# Altium schematic symbol library Maks_lib.SchLib: 162 symbols
Pins are listed as number, name and electrical type; pins without a type are passive.

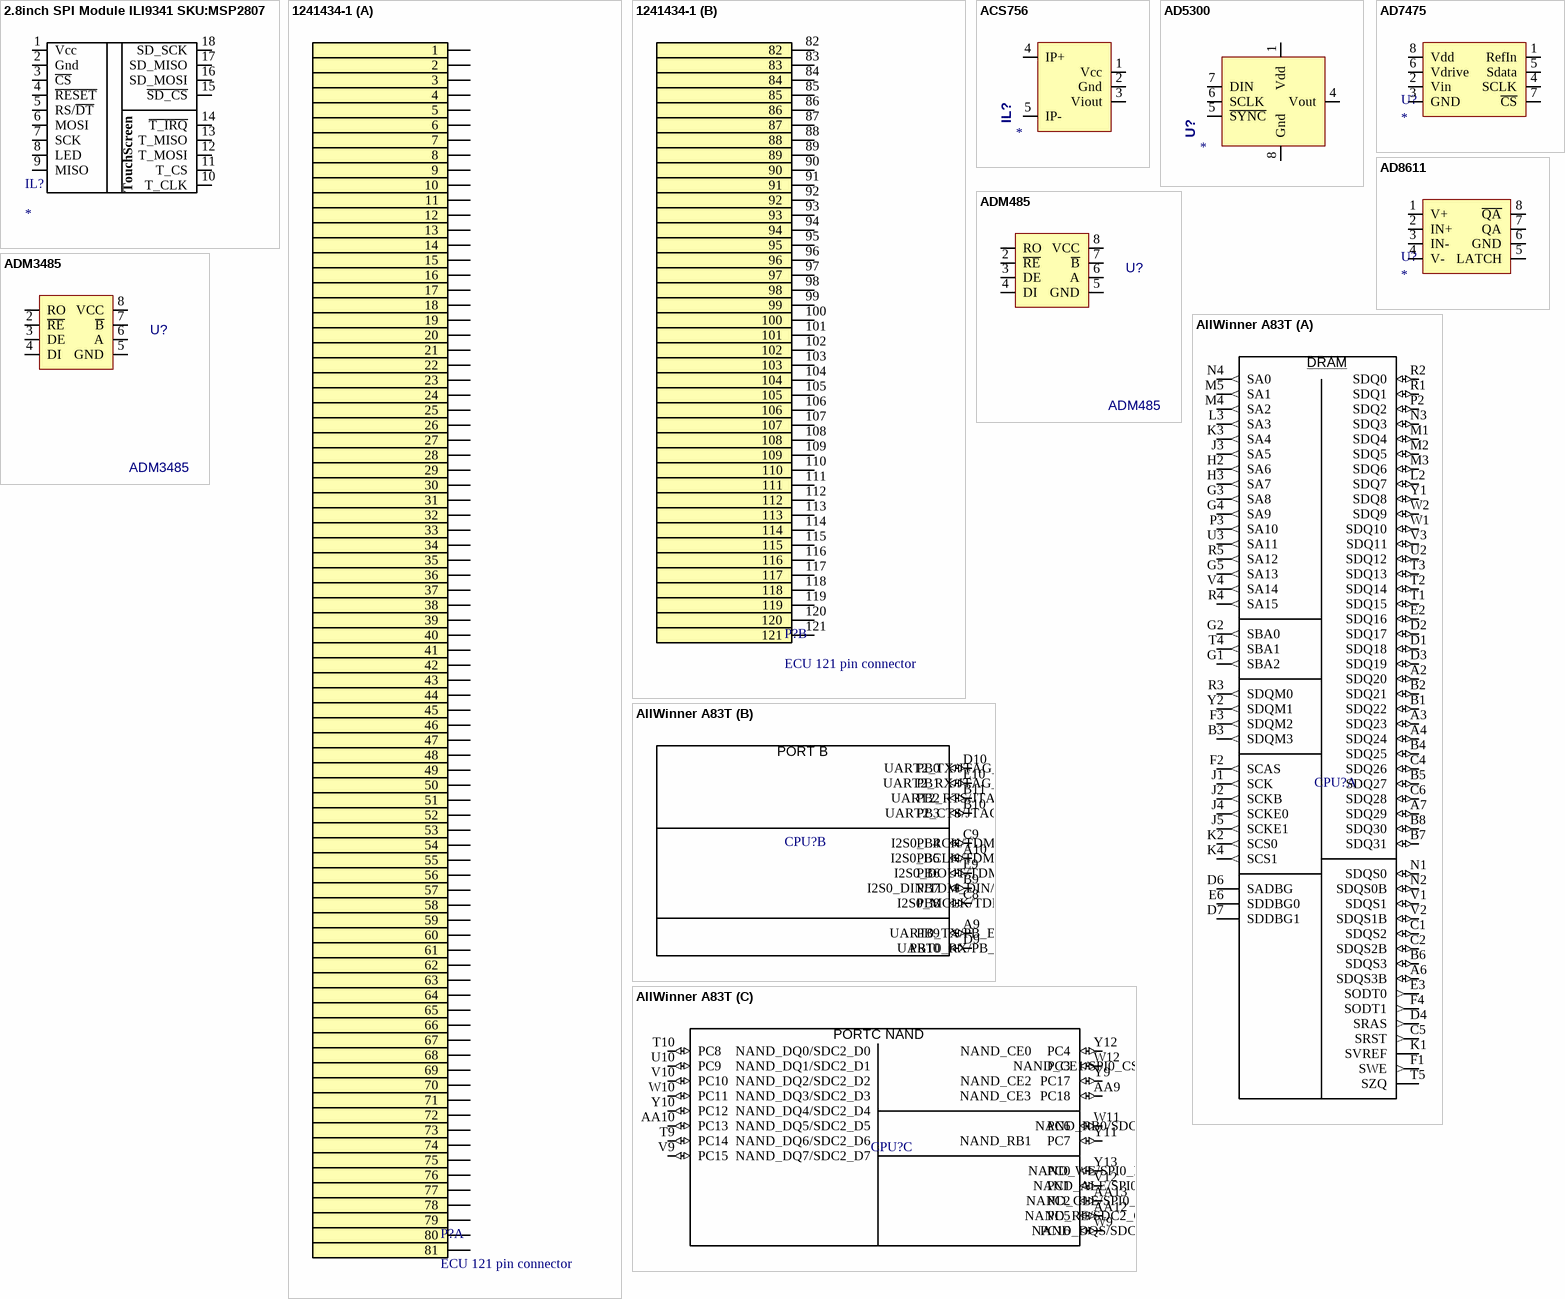
[diagram p0: symbols 2.8inch SPI Module ILI9341 SKU:MSP2807 to AllWinner A83T]

## 2.8inch SPI Module ILI9341 SKU:MSP2807
designator IL?
2.8inch SPI Module ILI9341 SKU:MSP2807
footprint 2.8inch SPI Module (2.8inch SPI Module ILI9341 SKU:MSP2807)
pins: 1 Vcc, 2 Gnd, 3 ~{CS}, 4 ~{RESET}, 5 RS/~{DT}, 6 MOSI, 7 SCK, 8 LED, 9 MISO, 10 T_CLK, 11 T_CS, 12 T_MOSI, 13 T_MISO, 14 ~{T_IRQ}, 15 ~{SD_CS}, 16 SD_MOSI, 17 SD_MISO, 18 SD_SCK
text: TouchScreen

## 1241434-1
designator P?, comment ECU 121 pin connector  (no BOM)
footprint 1241434-1 (ECU Connector)
part A pins: 1, 2, 3, 4, 5, 6, 7, 8, 9, 10, 11, 12, 13, 14, 15, 16, 17, 18, 19, 20, 21, 22, 23, 24, 25, 26, 27, 28, 29, 30, 31, 32, 33, 34, 35, 36, 37, 38, 39, 40, 41, 42, 43, 44, 45, 46, 47, 48, 49, 50, 51, 52, 53, 54, 55, 56, 57, 58, 59, 60, 61, 62, 63, 64, 65, 66, 67, 68, 69, 70, 71, 72, 73, 74, 75, 76, 77, 78, 79, 80, 81
part B pins: 82, 83, 84, 85, 86, 87, 88, 89, 90, 91, 92, 93, 94, 95, 96, 97, 98, 99, 100, 101, 102, 103, 104, 105, 106, 107, 108, 109, 110, 111, 112, 113, 114, 115, 116, 117, 118, 119, 120, 121

## ACS756
designator IL?
footprint ACS756 (30A current sensor)
pins: 1 Vcc, 2 Gnd, 3 Viout, 4 IP+, 5 IP-

## AD5300
designator U?
DAC
footprint MSO-8
pins: 1 Vdd, 4 Vout, 5 ~{SYNC}, 6 SCLK, 7 DIN, 8 Gnd

## AD7475
designator U?
AD7475 1 chanel DAC
footprint SO-8
pins: 1 RefIn, 2 Vin, 3 GND, 4 SCLK, 5 Sdata, 6 Vdrive, 7 ~{CS}, 8 Vdd

## AD8611
designator U?
Ultrafast, 4 ns  Single-Supply Comparators
footprint SO-8
pins: 1 V+, 2 IN+, 3 IN-, 4 V-, 5 LATCH, 6 GND, 7 QA, 8 ~{QA}

## ADM485
designator U?
Value: *
footprint ADM485_ADM485(Primary)
footprint SO-8
pins: 1 RO, 2 ~{RE}, 3 DE, 4 DI, 5 GND, 6 A, 7 ~{B}, 8 VCC

## ADM3485
designator U?
3.3V RS485 Driver; Value: *
footprint SO-8
pins: 1 RO, 2 ~{RE}, 3 DE, 4 DI, 5 GND, 6 A, 7 ~{B}, 8 VCC

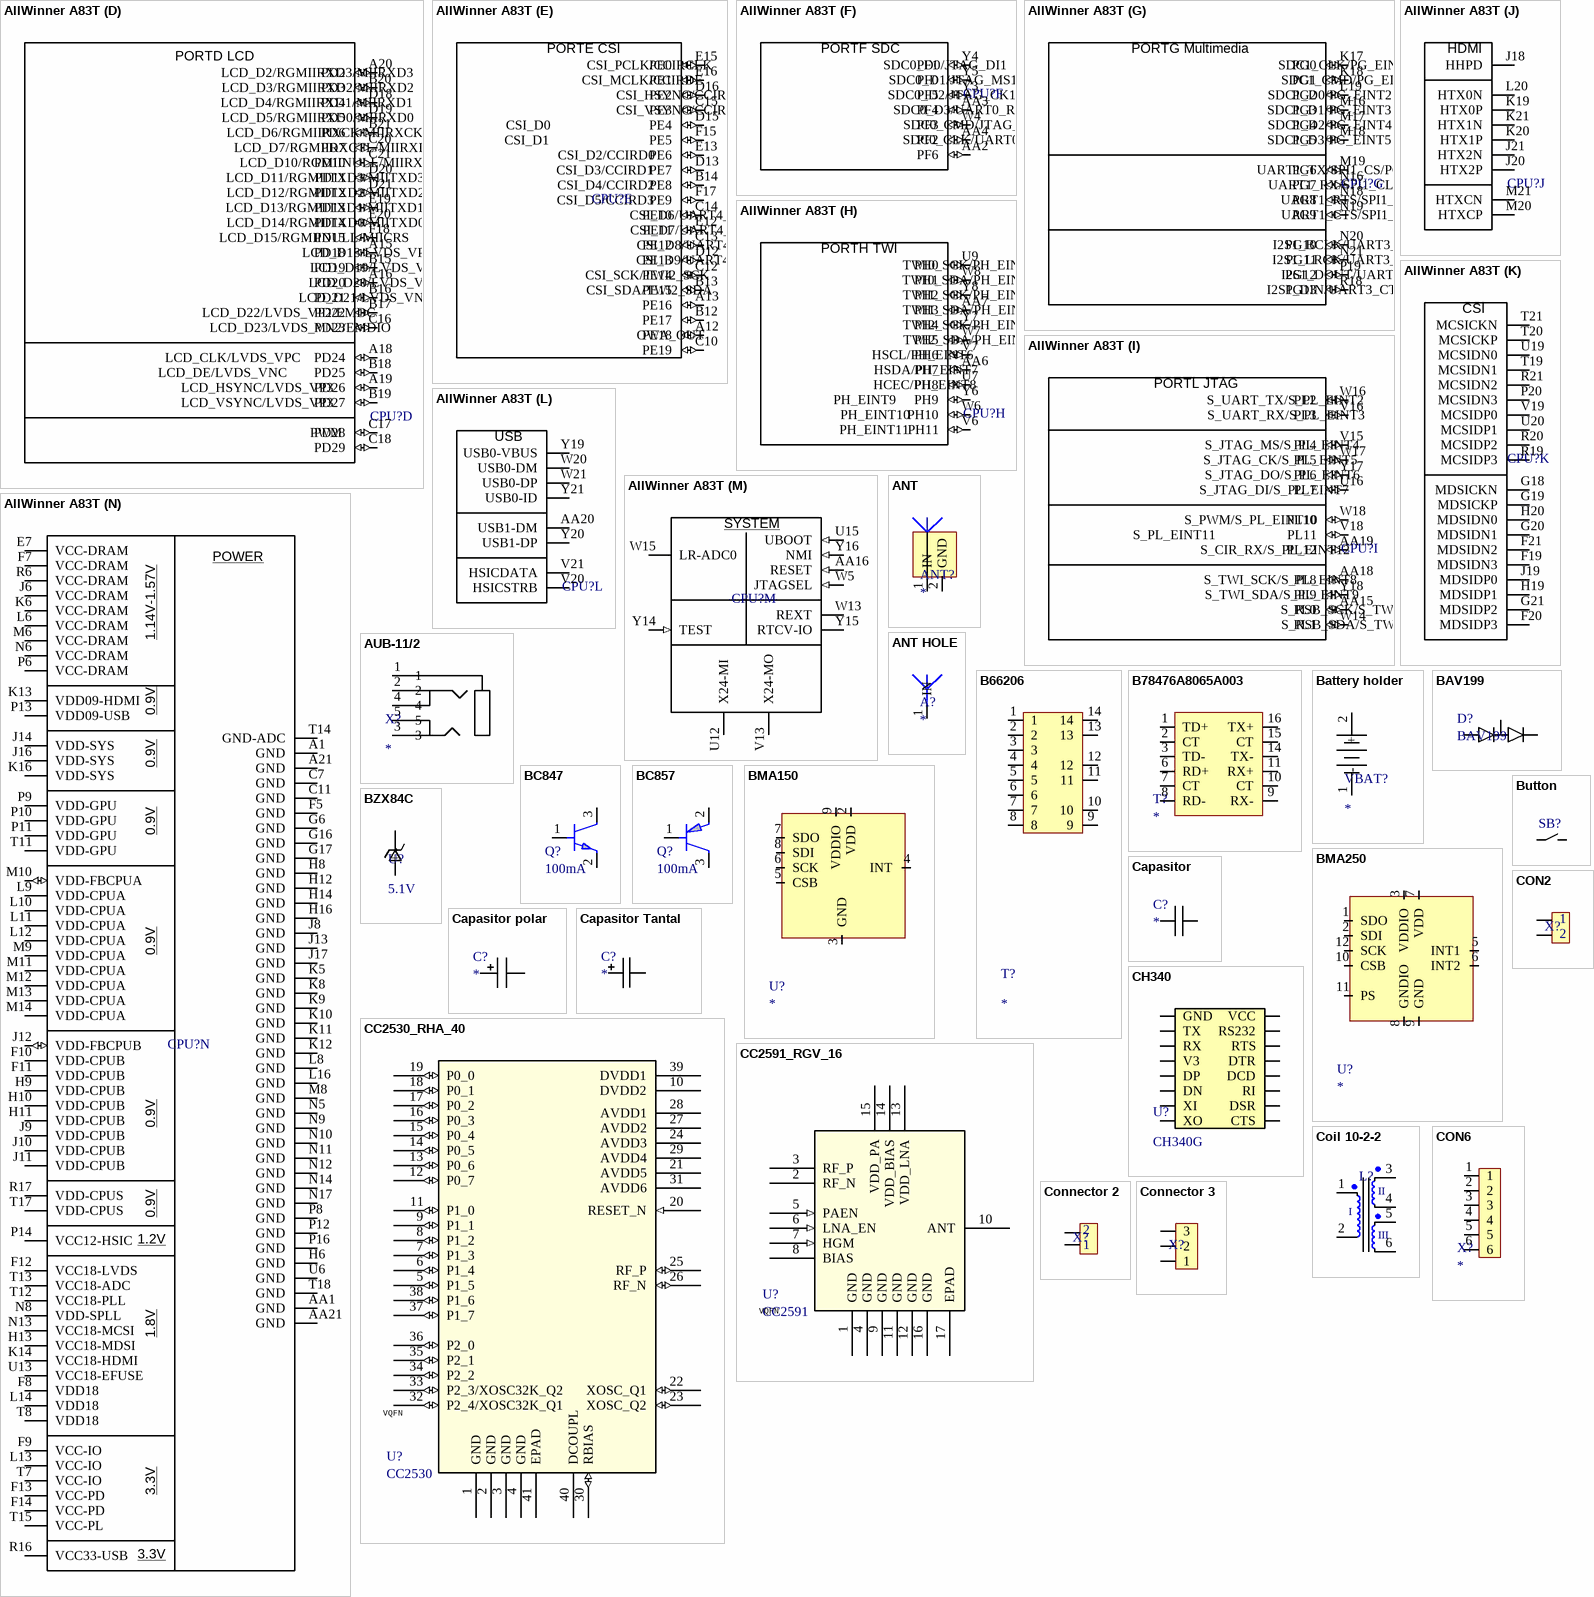
[diagram p1: symbols AllWinner A83T to Connector 3]

## AllWinner A83T
designator CPU?  (value not drawn)
The Allwinner’s A83T is a remarkably lower power, high performance octa-core mobile application processor based on ARM CortexTM-A7 CPU along with SGX544MP1 GPU architecture.
footprint FCBGA345 (FCBGA, 345-Leads, Body 14,00x14,00mmx0,96mm, Pitch 0,65mm)
part A pins: A2 SDQ20 (io), A3 SDQ23 (io), A4 SDQ24 (io), A6 SDQS3B (io), A7 SDQ29 (io), B1 SDQ22 (io), B2 SDQ21 (io), B3 SDQM3 (out), B4 SDQ25 (io), B5 SDQ27 (io), B6 SDQS3 (io), B7 SDQ31 (io), B8 SDQ30 (io), C1 SDQS2 (io), C2 SDQS2B (io), C4 SDQ26 (io), C5 SRST (out), C6 SDQ28 (io), D1 SDQ18 (io), D2 SDQ17 (io), D3 SDQ19 (io), D4 SRAS (out), D6 SADBG, D7 SDDBG1, E2 SDQ16 (io), E3 SODT0 (out), E6 SDDBG0, F1 SWE (out), F2 SCAS (out), F3 SDQM2 (out), F4 SODT1 (out), G1 SBA2 (out), G2 SBA0 (out), G3 SA8 (out), G4 SA9 (out), G5 SA13 (out), H2 SA6 (out), H3 SA7 (out), J1 SCK (out), J2 SCKB (out), J3 SA5 (out), J4 SCKE0 (out), J5 SCKE1 (out), K1 SVREF (power), K2 SCS0 (out), K3 SA4 (out), K4 SCS1 (out), L2 SDQ7 (io), L3 SA3 (out), M1 SDQ4 (io), M2 SDQ5 (io), M3 SDQ6 (io), M4 SA2 (out), M5 SA1 (out), N1 SDQS0 (io), N2 SDQS0B (io), N3 SDQ3 (io), N4 SA0 (out), P2 SDQ2 (io), P3 SA10 (out), R1 SDQ1 (io), R2 SDQ0 (io), R3 SDQM0 (out), R4 SA15 (out), R5 SA12 (out), T1 SDQ15 (io), T2 SDQ14 (io), T3 SDQ13 (io), T4 SBA1 (out), T5 SZQ, U2 SDQ12 (io), U3 SA11 (out), V1 SDQS1 (io), V2 SDQS1B (io), V3 SDQ11 (io), V4 SA14 (out), W1 SDQ10 (io), W2 SDQ9 (io), Y1 SDQ8 (io), Y2 SDQM1 (out)
part B pins: A9 PB9 (io), A10 PB5 (io), B9 PB7 (io), B10 PB3 (io), B11 PB2 (io), C8 PB8 (io), C9 PB4 (io), D9 PB10 (io), D10 PB0 (io), E9 PB6 (io), E10 PB1 (io)
part C pins: AA9 PC18 (io), AA10 PC13 (io), AA12 PC5 (io), AA13 PC2 (io), T9 PC14 (io), T10 PC8 (io), U10 PC9 (io), V9 PC15 (io), V10 PC10 (io), V12 PC1 (io), W9 PC16 (io), W10 PC11 (io), W11 PC6 (io), W12 PC3 (io), Y9 PC17 (io), Y10 PC12 (io), Y11 PC7 (io), Y12 PC4 (io), Y13 PC0 (io)
part D pins: A15 PD18 (io), A16 PD20 (io), A18 PD24 (io), A19 PD26 (io), A20 PD2 (io), B15 PD19 (io), B16 PD21 (io), B17 PD22 (io), B18 PD25 (io), B19 PD27 (io), B20 PD3 (io), B21 PD6 (io), C16 PD23 (io), C17 PD28 (io), C18 PD29 (io), C20 PD7 (io), C21 PD10 (io), D18 PD4 (io), D19 PD5 (io), D20 PD11 (io), D21 PD12 (io), E19 PD13 (io), E20 PD14 (io), F18 PD15 (io)
part E pins: A12 PE18 (io), A13 PE16 (io), B12 PE17 (io), B13 PE15 (io), B14 PE8 (io), C10 PE19 (io), C12 PE14 (io), C13 PE12 (io), C14 PE10 (io), C15 PE3 (io), D12 PE13 (io), D13 PE7 (io), D15 PE4 (io), D16 PE2 (io), E12 PE11 (io), E13 PE6 (io), E15 PE0 (io), E16 PE1 (io), F15 PE5 (io), F17 PE9 (io)
part F pins: AA2 PF6 (io), AA3 PF4 (io), AA4 PF2 (io), W4 PF3 (io), Y3 PF5 (io), Y4 PF1 (io), Y5 PF0 (io)
part G pins: K17 PG0 (io), K18 PG1 (io), L19 PG2 (io), M16 PG3 (io), M17 PG4 (io), M18 PG5 (io), M19 PG6 (io), N16 PG7 (io), N18 PG8 (io), N19 PG9 (io), N20 PG10 (io), N21 PG11 (io), P19 PG12 (io), R18 PG13 (io)
part H pins: AA6 PH7 (io), AA7 PH3 (io), U7 PH8 (io), U9 PH0 (io), V6 PH11 (io), V7 PH6 (io), W6 PH10 (io), W7 PH5 (io), W8 PH1 (io), Y6 PH9 (io), Y7 PH4 (io), Y8 PH2 (io)
part I pins: AA15 PL0 (io), AA18 PL8 (io), AA19 PL12 (io), U16 PL7 (io), V15 PL4 (io), V16 PL3 (io), V18 PL11 (io), W14 PL1 (io), W16 PL2 (io), W17 PL5 (io), W18 PL10 (io), Y17 PL6 (io), Y18 PL9 (io)
part J pins: J18 HHPD, J20 HTX2P, J21 HTX2N, K19 HTX0P, K20 HTX1P, K21 HTX1N, L20 HTX0N, M20 HTXCP, M21 HTXCN
part K pins: F19 MDSIDN3, F20 MDSIDP3, F21 MDSIDN2, G18 MDSICKN, G19 MDSICKP, G20 MDSIDN1, G21 MDSIDP2, H19 MDSIDP1, H20 MDSIDN0, J19 MDSIDP0, P20 MCSIDN3, R19 MCSIDP3, R20 MCSIDP2, R21 MCSIDN2, T19 MCSIDN1, T20 MCSICKP, T21 MCSICKN, U19 MCSIDN0, U20 MCSIDP1, V19 MCSIDP0
part L pins: AA20 USB1-DM, V20 HSICSTRB, V21 HSICDATA, W20 USB0-DM, W21 USB0-DP, Y19 USB0-VBUS, Y20 USB1-DP, Y21 USB0-ID
part M pins: AA16 RESET (in), U12 X24-MI, U15 UBOOT (in), V13 X24-MO, W5 JTAGSEL (in), W13 REXT, W15 LR-ADC0, Y14 TEST (in), Y15 RTCV-IO (power), Y16 NMI (in)
part N pins: A1 GND, A21 GND, AA1 GND, AA21 GND, C7 GND, C11 GND, E7 VCC-DRAM (power), F5 GND, F7 VCC-DRAM (power), F8 VDD18 (power), F9 VCC-IO (power), F10 VDD-CPUB (power), F11 VDD-CPUB (power), F12 VCC18-LVDS (power), F13 VCC-PD (power), F14 VCC-PD (power), G6 GND, G16 GND, G17 GND, H6 GND, H8 GND, H9 VDD-CPUB (power), H10 VDD-CPUB (power), H11 VDD-CPUB (power), H12 GND, H13 VCC18-MDSI (power), H14 GND, H16 GND, J6 VCC-DRAM (power), J8 GND, J9 VDD-CPUB (power), J10 VDD-CPUB (power), J11 VDD-CPUB (power), J12 VDD-FBCPUB (io), J13 GND, J14 VDD-SYS (power), J16 VDD-SYS (power), J17 GND, K5 GND, K6 VCC-DRAM (power), K8 GND, K9 GND, K10 GND, K11 GND, K12 GND, K13 VDD09-HDMI (power), K14 VCC18-HDMI (power), K16 VDD-SYS (power), L6 VCC-DRAM (power), L8 GND, L9 VDD-CPUA (power), L10 VDD-CPUA (power), L11 VDD-CPUA (power), L12 VDD-CPUA (power), L13 VCC-IO (power), L14 VDD18 (power), L16 GND, M6 VCC-DRAM (power), M8 GND, M9 VDD-CPUA (power), M10 VDD-FBCPUA (io), M11 VDD-CPUA (power), M12 VDD-CPUA (power), M13 VDD-CPUA (power), M14 VDD-CPUA (power), N5 GND, N6 VCC-DRAM (power), N8 VDD-SPLL (power), N9 GND, N10 GND, N11 GND, N12 GND, N13 VCC18-MCSI (power), N14 GND, N17 GND, P6 VCC-DRAM (power), P8 GND, P9 VDD-GPU (power), P10 VDD-GPU (power), P11 VDD-GPU (power), P12 GND, P13 VDD09-USB (power), P14 VCC12-HSIC (power), P16 GND, R6 VCC-DRAM (power), R16 VCC33-USB (power), R17 VDD-CPUS (power), T7 VCC-IO (power), T8 VDD18 (power), T11 VDD-GPU (power), T12 VCC18-PLL (power), T13 VCC18-ADC (power), T14 GND-ADC, T15 VCC-PL (power), T17 VDD-CPUS (power), T18 GND, U6 GND, U13 VCC18-EFUSE (power)
part A text: DRAM
part B text: PORT B; UART2_TX/JTAG_MS0/PB_EINT0; UART2_RX/JTAG_CK0/PB_EINT1; UART2_RTS/JTAG_DO0/PB_EINT2; UART2_CTS/JTAG_DI0/PB_EINT3; I2S0_LRCK/TDM_LRCK/PB_EINT4; I2S0_BCLK/TDM_BCLK/PB_EINT5; I2S0_DOUT/TDM_DOUT/PB_EINT6; I2S0_DIN/TDM_DIN/PB_EINT7; I2S0_MCLK/TDM_MCLK/PB_EINT8; UART0_TX/PB_EINT9; UART0_RX/PB_EINT10
part C text: PORTC NAND; NAND_DQ0/SDC2_D0; NAND_CE0; NAND_DQ1/SDC2_D1; NAND_CE1/SPI0_CS; NAND_DQ2/SDC2_D2; NAND_CE2; NAND_DQ3/SDC2_D3; NAND_CE3; NAND_DQ4/SDC2_D4; NAND_DQ5/SDC2_D5; NAND_RB0/SDC2_CMD; NAND_DQ6/SDC2_D6; NAND_RB1; NAND_DQ7/SDC2_D7; NAND_WE/SPI0_MOSI; NAND_ALE/SPI0_MISO; NAND_CLE/SPI0_CLK; NAND_RE/SDC2_CLK; NAND_DQS/SDC2_RST
part D text: PORTD LCD; LCD_D2/RGMIIRXD3/MIIRXD3; LCD_D3/RGMIIRXD2/MIIRXD2; LCD_D4/RGMIIRXD1/MIIRXD1; LCD_D5/RGMIIRXD0/MIIRXD0; LCD_D6/RGMIIRXCK/MIIRXCK; LCD_D7/RGMIIRXCTL/MIIRXDV; LCD_D10/RGMIINULL/MIIRXERR; LCD_D11/RGMIITXD3/MIITXD3; LCD_D12/RGMIITXD2/MIITXD2; LCD_D13/RGMIITXD1/MIITXD1; LCD_D14/RGMIITXD0/MIITXD0; LCD_D15/RGMIINULL/MIICRS; LCD_D18/LVDS_VP0/RGMIITXCK/MIITXCK; LCD_D19/LVDS_VN0/RGMIITXCTL/MIITXEN; LCD_D20/LVDS_VP1/RGMIINULL/MIITXERR; LCD_D21/LVDS_VN1/RGMIICLKIN/MIICOL; LCD_D22/LVDS_VP2/EMDC; LCD_D23/LVDS_VN2/EMDIO; LCD_CLK/LVDS_VPC; LCD_DE/LVDS_VNC; LCD_HSYNC/LVDS_VP3; LCD_VSYNC/LVDS_VP3; PWM
part E text: PORTE CSI; CSI_PCLK/CCIRCLK; CSI_MCLK/CCIRDE; CSI_HSYNC/CCIRHSYNC; CSI_VSYNC/CCIRVSYNC; CSI_D0; CSI_D1; CSI_D2/CCIRD0; CSI_D3/CCIRD1; CSI_D4/CCIRD2; CSI_D5/CCIRD3; CSI_D6/UART4_TX/CCIRD4; CSI_D7/UART4_RX/CCIRD5; CSI_D8/UART4_RTS/CCIRD6; CSI_D9/UART4_CTS/CCIRD7; CSI_SCK/TWI2_SCK; CSI_SDA/TWI2_SDA; OWA_OUT
part F text: PORTF SDC; SDC0_D0/JTAG_DI1; SDC0_D1/JTAG_MS1; SDC0_D2/JTAG_CK1; SDC0_D3/UART0_RX; SDC0_CMD/JTAG_DO1; SDC0_CLK/UART0_TX
part G text: PORTG Multimedia; SDC1_CLK/PG_EINT0; SDC1_CMD/PG_EINT1; SDC1_D0/PG_EINT2; SDC1_D1/PG_EINT3; SDC1_D2/PG_EINT4; SDC1_D3/PG_EINT5; UART1_TX/SPI1_CS/PG_EINT6; UART1_RX/SPI1_CLK/PG_EINT7; UART1_RTS/SPI1_MOSI/PG_EINT8; UART1_CTS/SPI1_MISO/PG_EINT9; I2S1_BCLK/UART3_TX/PG_EINT10; I2S1_LRCK/UART3_RX/PG_EINT11; I2S1_DOUT/UART3_RTS/PG_EINT12; I2S1_DIN/UART3_CTS/PG_EINT13
part H text: PORTH TWI; TWI0_SCK/PH_EINT0; TWI0_SDA/PH_EINT1; TWI1_SCK/PH_EINT2; TWI1_SDA/PH_EINT3; TWI2_SCK/PH_EINT4; TWI2_SDA/PH_EINT5; HSCL/PH_EINT6; HSDA/PH_EINT7; HCEC/PH_EINT8; PH_EINT9; PH_EINT10; PH_EINT11
part I text: PORTL JTAG; S_UART_TX/S_PL_EINT2; S_UART_RX/S_PL_EINT3; S_JTAG_MS/S_PL_EINT4; S_JTAG_CK/S_PL_EINT5; S_JTAG_DO/S_PL_EINT6; S_JTAG_DI/S_PL_EINT7; S_PWM/S_PL_EINT10; S_PL_EINT11; S_CIR_RX/S_PL_EINT12; S_TWI_SCK/S_PL_EINT8; S_TWI_SDA/S_PL_EINT9; S_RSB_SCK/S_TWI_SCK/S_PL_EINT0; S_RSB_SDA/S_TWI_SDA/S_PL_EINT1
part J text: HDMI
part K text: CSI
part L text: USB
part M text: SYSTEM
part N text: POWER; 1.14V-1.57V; 0.9V; 1.2V; 1.8V; 3.3V

## ANT
designator ANT?
footprint ANT_866_2.4 (866MHz &2.4GHz Monopole PCB Antenna)
footprint UFL (U.FL Series Connector)
footprint HYR-1405
footprint AMMAP004\003 (Ceramic Antenna)
footprint AMMAP004\003 - layers (Ceramic Antenna)
pins: 1 IN, 2 GND

## ANT HOLE
designator A?
footprint ANT HOLE (HOLE FOR ANT WIRE)
pins: 1 IN

## AUB-11/2
designator X?
3.5 jack connector
footprint AUB-11/2 (3.5 jack connector)
pins: 1, 2, 3, 4, 5

## B66206
designator T?
Coil
footprint B66206C1014T001 (Coil former (with right-angle pins))
pins: 1, 2, 3, 4, 5, 6, 7, 8, 9, 10, 11, 12, 13, 14

## B78476A8065A003
designator T?
footprint SOIC127P600X175_HS-17M (SOIC, 16-Leads, Body 9,90x3,90mm, Pitch 1,27mm, Thermal Pad 9,00.2x1,80.2mm, IPC Low Density)
pins: 1 TD+, 2 CT, 3 TD-, 6 RD+, 7 CT, 8 RD-, 9 RX-, 10 CT, 11 RX+, 14 TX-, 15 CT, 16 TX+

## Battery holder
designator VBAT?
Battery Holders, Battery Compatibility CR2032, Board-to-Board, 2 Position, Horizontal PCB Mount Orientation
footprint 796136-1 (BATTERY CONNECTOR, SURFACE MOUNT,)
pins: 1 -, 2 +

## BAV199
designator D?
footprint SOT23 (SOT23, 3-Leads, Body 2,90x2,30mm, Pitch 0,95mm, IPC Medium Density)
pins: 1, 2, 3

## BC847
designator Q?, comment 100mA
NPN
footprint SOT23 (SOT23, 3-Leads, Body 2,90x2,30mm, Pitch 0,95mm, IPC Medium Density)
pins: 1 B, 2 E, 3 C

## BC857
designator Q?, comment 100mA
PNP
footprint SOT23 (SOT23, 3-Leads, Body 2,90x2,30mm, Pitch 0,95mm, IPC Medium Density)
pins: 1 B, 2 E, 3 C

## BMA150
designator U?
footprint LGA_BMA150
pins: 2 VDD, 3 GND, 4 INT, 5 CSB, 6 SCK, 7 SDO, 8 SDI, 9 VDDIO

## BMA250
designator U?
footprint LGA
pins: 1 SDO, 2 SDI, 3 VDDIO, 5 INT1, 6 INT2, 7 VDD, 8 GNDIO, 9 GND, 10 CSB, 11 PS, 12 SCK

## Button
designator SB?  (value not drawn)
footprint Button001
footprint SW_1437566-3 (1437566-3); pin to pad 0>1 1>2
pins: 0, 1

## BZX84C
designator U?, comment 5.1V
Zener; value: 5.1V
footprint SOT23 (SOT23, 3-Leads, Body 2,90x2,30mm, Pitch 0,95mm, IPC Medium Density); pin to pad +>3 ->1
pins: +, -

## Capasitor
designator C?
Value: *
footprint SMD 1206
footprint SMD 0805
footprint SMD 0603
footprint SMD 0402
footprint B32922C3334M7
footprint DEBE33F472Z
footprint debb33d222k (HV Ceramic cap)
pins: 1, 2

## Capasitor polar
designator C?
Value: *
footprint CAP AL 470/25
footprint CAP AL 470/10
footprint CAP AL 220/25 (220uF 25V T64); pin to pad 0>1 1>0
footprint CAP AL 1/50 (1uF 50V VS); pin to pad 0>1 1>0
footprint CAP_470; pin to pad 0>2
footprint B43851
footprint CAP 12.5x25 (Cap radial)
footprint CAP 8x11.5 (Cap radial)
footprint CAP 5x11 (Cap radial)
footprint CAP 10x20 (Cap radial)
pins: 0, 1

## Capasitor Tantal
designator C?
Value: *
footprint CAP D (tantal); pin to pad 0>2
footprint TAJ A-CASE (AVX A-CASE 1206); pin to pad 0>2
footprint TAJ B-CASE (AVX B-CASE 1210); pin to pad 0>2
pins: 0, 1

## CC2530_RHA_40
designator U?, comment CC2530  INDUSTRY_STD_PKG_TYPE: VQFN
A True System-on-Chip Solution for 2.4-GHz IEEE 802.15.4 and ZigBee Applications; Manufacturer: Texas Instruments; FAMILY_NAME: ZigBee RF4CE; PIN_COUNT: 40; PACKAGE_DESIGNATOR: RHA; Datasheet_URL: http://www.ti.com/lit/gpn/CC2530; GENERIC_PART_NUMBER: CC2530; Value: Value; Type: Type; RefDes: RefDes
footprint RHA40_4P5X4P5
pins: 1 GND (power), 2 GND (power), 3 GND (power), 4 GND (power), 5 P1_5 (io), 6 P1_4 (io), 7 P1_3 (io), 8 P1_2 (io), 9 P1_1 (io), 10 DVDD2 (power), 11 P1_0 (io), 12 P0_7 (io), 13 P0_6 (io), 14 P0_5 (io), 15 P0_4 (io), 16 P0_3 (io), 17 P0_2 (io), 18 P0_1 (io), 19 P0_0 (io), 20 RESET_N (in), 21 AVDD5 (power), 22 XOSC_Q1 (io), 23 XOSC_Q2 (io), 24 AVDD3 (power), 25 RF_P (io), 26 RF_N (io), 27 AVDD2 (power), 28 AVDD1 (power), 29 AVDD4 (power), 30 RBIAS (io), 31 AVDD6 (power), 32 P2_4/XOSC32K_Q1 (io), 33 P2_3/XOSC32K_Q2 (io), 34 P2_2 (io), 35 P2_1 (io), 36 P2_0 (io), 37 P1_7 (io), 38 P1_6 (io), 39 DVDD1 (power), 40 DCOUPL (power), 41 EPAD (power)

## CC2591_RGV_16
designator U?, comment CC2591  INDUSTRY_STD_PKG_TYPE: VQFN
2.4-GHz Range Extender; Manufacturer: Texas Instruments; FAMILY_NAME: 2.4 GHZ; PIN_COUNT: 16; PACKAGE_DESIGNATOR: RGV; Datasheet_URL: http://www.ti.com/lit/gpn/CC2591; GENERIC_PART_NUMBER: CC2591; Value: Value; Type: Type; RefDes: RefDes
footprint RGV16_2P16X2P16
pins: 1 GND (power), 2 RF_N, 3 RF_P, 4 GND, 5 PAEN (in), 6 LNA_EN (in), 7 HGM (in), 8 BIAS (power), 9 GND (power), 10 ANT, 11 GND (power), 12 GND (power), 13 VDD_LNA (power), 14 VDD_BIAS (power), 15 VDD_PA, 16 GND (power), 17 EPAD (power)

## CH340
designator U?, comment CH340G
Series USB Interface Integrated Circuit
footprint SOIC127P600X175_HS-17M (SOIC, 16-Leads, Body 9,90x3,90mm, Pitch 1,27mm, Thermal Pad 9,00.2x1,80.2mm, IPC Low Density)
pins: 1 GND, 2 TX, 3 RX, 4 V3, 5 DP, 6 DN, 7 XI, 8 XO, 9 CTS, 10 DSR, 11 RI, 12 DCD, 13 DTR, 14 RTS, 15 RS232, 16 VCC

## Coil 10-2-2
designator L?  (value not drawn)
F 140kHz
footprint Coil 10-2-2
pins: 1 P1, 2, 3 (power), 4 (power), 5 (power), 6 (power)
text: II; I; III

## CON2
designator X?  (value not drawn)
footprint CON2
pins: 1, 2

## CON6
designator X?
footprint CON6 slim
pins: 1, 2, 3, 4, 5, 6

## Connector 2
designator X?  (value not drawn)
footprint CONN 3.5MM 2
footprint Conn 5mm 2
footprint CON2 slim; pin to pad 0>1 1>2
pins: 0 1, 1 2

## Connector 3
designator X?  (value not drawn)
footprint CONN 3.5MM 3; pin to pad 1>0 2>1 3>2
footprint Conn 5mm 3; pin to pad 1>0 2>1 3>2
footprint CON3
footprint CON3 slim
footprint 640456-3 (PCB Mount Header, Vertical, Wire-to-Board, 3 Position, 2.54mm)
pins: 1, 2, 3

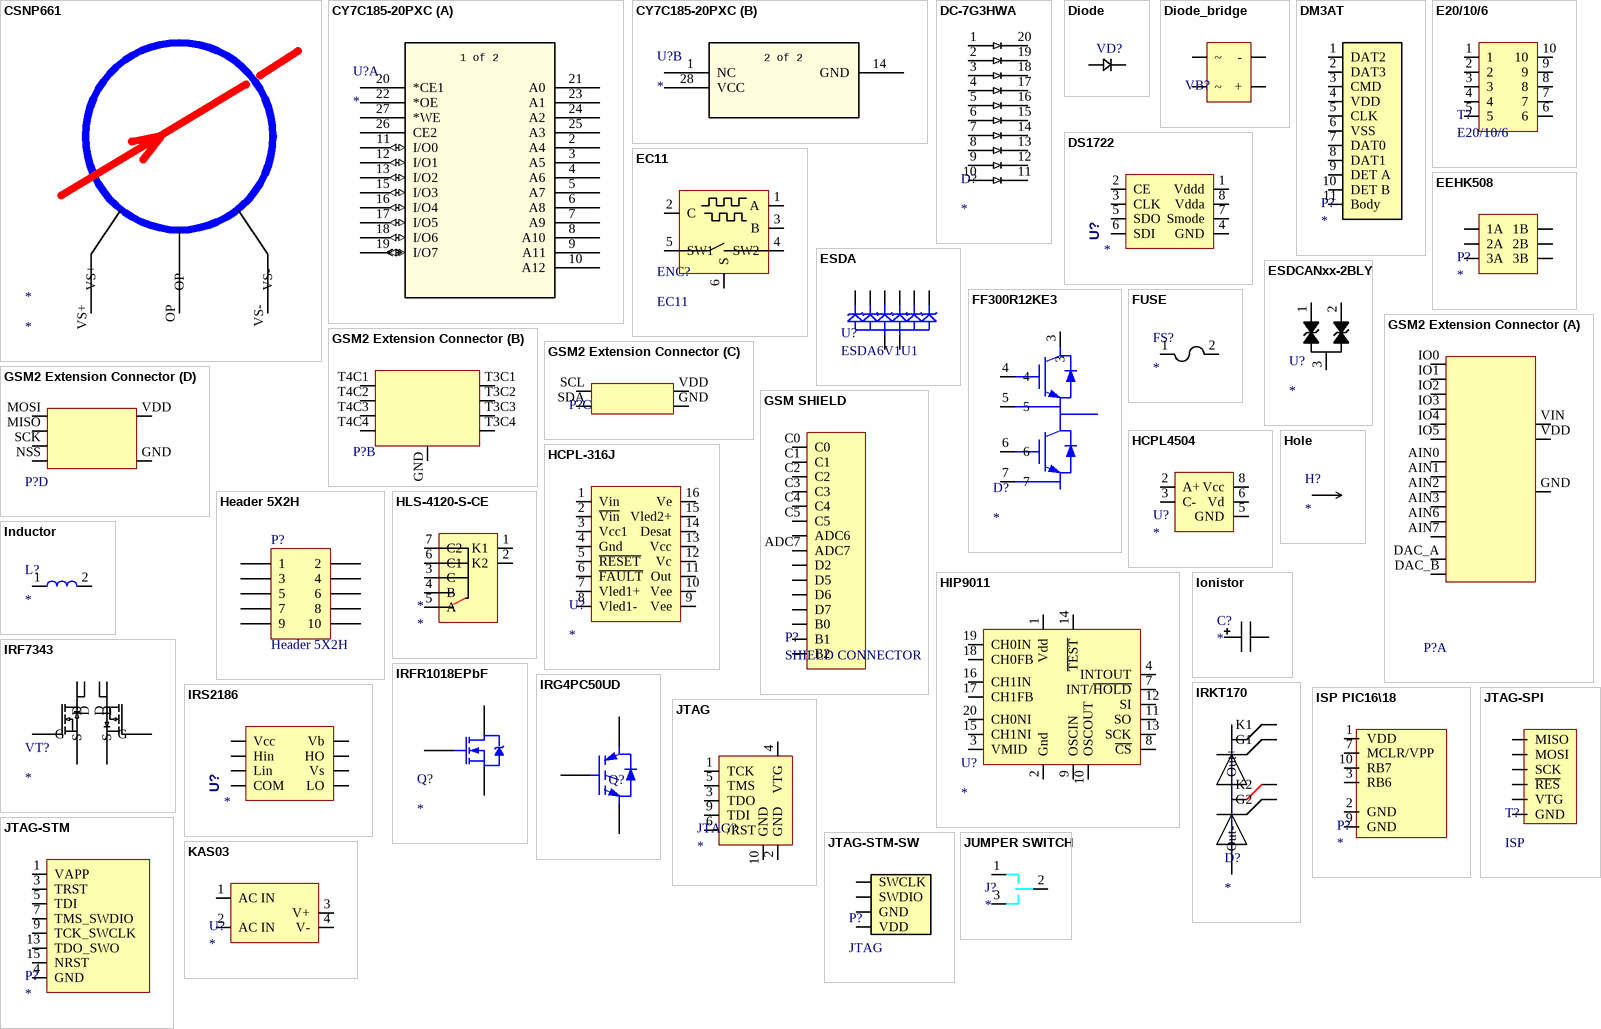
[diagram p2: symbols CSNP661 to KAS03]

## CSNP661
designator *
footprint CSNP661 (Current Sensor 50A)
pins: OP, VS+, VS-

## CY7C185-20PXC
designator U?
IC SRAM 64KBIT 20NS 28DIP; Manufacturer_Part_Number: CY7C185-20PXC; Built_By: EMA_UL_Team; Vendor: Cypress Semiconductor; RefDes: RefDes; Type: DEV; Value: Value
footprint DIP-28
part A pins: 2 A4, 3 A5, 4 A6, 5 A7, 6 A8, 7 A9, 8 A10, 9 A11, 10 A12, 11 I/O0 (io), 12 I/O1 (io), 13 I/O2 (io), 15 I/O3 (io), 16 I/O4 (io), 17 I/O5 (io), 18 I/O6 (io), 19 I/O7 (io), 20 *CE1, 21 A0, 22 *OE, 23 A1, 24 A2, 25 A3, 26 CE2, 27 *WE
part B pins: 1 NC, 14 GND (power), 28 VCC (power)
part A text: 1 of 2
part B text: 2 of 2

## DC-7G3HWA
designator D?
10 SEGMENT BAR GRAPH ARRAY
footprint DC-7G3HWA (10 SEGMENT BAR GRAPH ARRAY)
pins: 1 A, 2 A, 3 A, 4 A, 5 A, 6 A, 7 A, 8 A, 9 A, 10 A, 11 K, 12 K, 13 K, 14 K, 15 K, 16 K, 17 K, 18 K, 19 K, 20 K

## Diode
designator VD?  (value not drawn)
footprint S3B (3A surface mount diode)
footprint DO-214AC
footprint SM-1; pin to pad 0>A 1>K
footprint SOD123
footprint DO-214AA (DIODE)
footprint DO-214AB (Diode)
footprint SOD323 (JEDEC SOD-323); pin to pad 0>2
pins: 0, 1

## Diode_bridge
designator VB?  (value not drawn)
footprint MB6S (Diode bridge)
footprint D-34A (28MB120); pin to pad 0>1 1>3 3>4
footprint DB1-S
footprint DB1S (SMD Diode brige)
pins: 0 ~, 1 -, 2 +, 3 ~

## DM3AT
designator P?
Socket microSD Card
footprint DM3AT-SF-PEJM5 (microSD Card)
pins: 1 DAT2, 2 DAT3, 3 CMD, 4 VDD, 5 CLK, 6 VSS, 7 DAT0, 8 DAT1, 9 DET A, 10 DET B, 11 Body

## DS1722
designator U?
IC Digital Thermometer
footprint SO-8
pins: 1 Vddd, 2 CE, 3 CLK, 4 GND, 5 SDO, 6 SDI, 7 Smode, 8 Vdda

## E20/10/6
designator T?
footprint B66206B110T001
pins: 1, 2, 3, 4, 5, 6, 7, 8, 9, 10

## EC11
designator ENC?
Incremental Encoder
footprint EC11 (Incremental Encoder)
pins: 1 A, 2 C, 3 B, 4 SW2, 5 SW1, 6 S

## EEHK508
designator P?
footprint EEHK508V-06P (6Pin Connector)
pins: 1A, 1B, 2A, 2B, 3A, 3B

## ESDA
designator U?, comment ESDA6V1U1
TRANSIL ARRAY  FOR ESD PROTECTION
footprint SO-8
pins: 1, 2, 3, 4, 5, 6, 7, 8

## ESDCANxx-2BLY
designator U?
dual-line TVS specifically designed for the protection of automotive CAN bus lines against electrostatic discharge (ESD)
footprint SOT23 (SOT23, 3-Leads, Body 2,90x2,30mm, Pitch 0,95mm, IPC Medium Density)
pins: 1, 2, 3

## FF300R12KE3
designator D?
62mm C-series module with trench/fieldstop IGBT3 and Emitter Controlled HighEfficiency diode
footprint FF300R12KE3 (62mm C-series module with trench/fieldstop IGBT3 and Emitter Controlled HighEfficiency diode)
pins: 3, 4, 5, 6, 7

## FUSE
designator FS?
Value: *
footprint FH-101
footprint ВП1-2; pin to pad 1>0 2>1
footprint MF-USMF010
footprint SMD 1206
pins: 1, 2

## GSM2 Extension Connector
designator P?  (value not drawn)
Connector for GSM2 Extension module
footprint GSM2_CONNECTOR (Connector for GSM2 extension plate)
part A pins: AIN0, AIN1, AIN2, AIN3, AIN6, AIN7, DAC_A, DAC_B, GND, IO0, IO1, IO2, IO3, IO4, IO5, VDD, VIN
part B pins: GND, T3C1, T3C2, T3C3, T3C4, T4C1, T4C2, T4C3, T4C4
part C pins: GND, SCL, SDA, VDD
part D pins: GND, MISO, MOSI, NSS, SCK, VDD

## GSM SHIELD
designator P?, comment SHIELD CONNECTOR
footprint GSM-Connector (Connector for shield)
pins: ADC6, ADC7, B0, B1, B2, C0, C1, C2, C3, C4, C5, D2, D5, D6, D7

## HCPL4504
designator U?
footprint DIP8
pins: 2 A+, 3 C-, 5 GND, 6 Vd, 8 Vcc

## HCPL-316J
designator U?
2.5 Amp Gate Drive Optocoupler with Integrated (VCE) Desaturation Detection and Fault Status Feedback; ComponentLink1Description: New link; ComponentLink1URL: *
footprint SOIC127P1030X265-16N (SOIC, 16-Leads, Body 10,30x7,50mm, Pitch 1,27mm, IPC Medium Density)
pins: 1 Vin, 2 ~{Vin}, 3 Vcc1, 4 Gnd, 5 ~{RESET}, 6 ~{FAULT}, 7 Vled1+, 8 Vled1-, 9 Vee, 10 Vee, 11 Out, 12 Vc, 13 Vcc, 14 Desat, 15 Vled2+, 16 Ve

## Header 5X2H
designator P?
Header, 5-Pin, Dual row, Right Angle; LatestRevisionDate: 17-Jul-2002; LatestRevisionNote: Re-released for DXP Platform.; Publisher: Altium Limited
signal-integrity model Connector
footprint HDR2X5 (Connector; Header; 5x2 Position)
footprint HDR2X5R (Connector; Header; 5x2 Position)
pins: 1, 2, 3, 4, 5, 6, 7, 8, 9, 10

## HIP9011
designator U?
Engine Knock Signal Processor
footprint SOIC20
pins: 1 Vdd, 2 Gnd, 3 VMID, 4 INTOUT, 7 INT/~{HOLD}, 8 ~{CS}, 9 OSCIN, 10 OSCOUT, 11 SO, 12 SI, 13 SCK, 14 ~{TEST}, 15 CH1NI, 16 CH1IN, 17 CH1FB, 18 CH0FB, 19 CH0IN, 20 CH0NI

## HLS-4120-S-CE
designator *
footprint HLS-4120
pins: 1 K1, 2 K2, 3 C, 4 B, 5 A, 6 C1, 7 C2

## Hole
designator H?
footprint Hole 2.5
footprint Hole 3
footprint Hole 1.5
footprint Hole 3.6
pins: 0

## Inductor
designator L?
Value: *
footprint SMD 1206
footprint B82477G4 (SMT power inductors)
footprint B82464G4 (SMT power inductors  Size 10.4 u 10.4 u 4.8 (mm))
footprint SDR0604
footprint SMD 0805
footprint SMD 0603
footprint SMD 0402
footprint VLS6045EX (Inductor)
footprint CD54 (SMD Power Inductors CD54 Series)
footprint RLB0914 (RLB Series Radial Inductors)
footprint L_CDRH5D28 (Ferrite drum core construction.)
pins: 1, 2

## Ionistor
designator C?
Value: *
footprint EECS5R5V105; pin to pad 0>1 1>2
pins: 0, 1

## IRF7343
designator VT?
HEXFET® Power MOSFET / Dual N and P Channel MOSFET; ComponentLink1Description: Datasheet; ComponentLink1URL: https://data.electronshik.ru/z/Datasheet/I/irf7343pbf.pdf
footprint SO-8; pin to pad D1>8 D2>5 D11>7 D21>6 G1>2 G2>4 S1>1 S2>3
pins: D1 D, D2 D, D11 D, D21 D, G1 G, G2 G, S1 S, S2 S

## IRFR1018EPbF
designator Q?
HEXFET Power MOSFET; ComponentLink1Description: datasheet; ComponentLink1URL: https://data.electronshik.ru/z/Datasheet/I/IRFR1018EPBF.pdf
footprint DPAK228P991X238-3M (D-PAK, 3-Pads, Body 6,20x6,72mm (max), IPC Low Density)
pins: 1 G, 3 S, 4 D

## IRG4PC50UD
designator Q?
Insulated Gate Bipolar Transistor with Ultrafast Soft Recovery Diode; Note: Pin 2 (collector) is electrically connected to the BASE; Published: 8-Jun-2000; LatestRevisionDate: 17-Jul-2002; LatestRevisionNote: Re-released for DXP Platform.; DatasheetVersion: Apr-1997; PackageVersion: Aug-1997; PackageReference: TO-247AC; Publisher: Altium Limited; PackageDescription: SIP with Mounting Hole; 3 Leads; Body 20 x 15.6 x 5 mm (typ); Pitch 5.45 mm; Code_JEDEC: TO-247-AC; ComponentLink1Description: Manufacturer Link; ComponentLink1URL: http://www.irf.com/; ComponentLink2Description: Datasheet; ComponentLink2URL: http://www.irf.com/product-info/datasheets/data/irg4pc50ud.pdf
footprint TO-247AC (SIP with Mounting Hole; 3 Leads; Body 20 x 15.6 x 5 mm (typ); Pitch 5.45 mm)
simulation model IRG4PC50UD (SUBCKT)
pins: 1 G, 2 C, 3 E

## IRKT170
designator D?
footprint IRKT170
footprint IRKT170 COMM; pin to pad Out+>K1
pins: G1, G2, K1, K2, Out+, Out-

## IRS2186
designator U?
H/L driver
footprint SO-8; pin to pad 1>5 2>1 3>2 4>3 5>4
pins: 1 Vcc, 2 Hin, 3 Lin, 4 COM, 5 LO, 6 Vs, 7 HO, 8 Vb

## ISP PIC16\18
designator P?
footprint HDR2X5 (Connector; Header; 5x2 Position)
pins: 1 VDD, 2 GND, 3 RB6, 7 MCLR/VPP, 9 GND, 10 RB7

## JTAG
designator JTAG?
footprint HDR2X5 (Connector; Header; 5x2 Position)
pins: 1 TCK, 2 GND, 3 TDO, 4 VTG, 5 TMS, 6 /RST, 9 TDI, 10 GND

## JTAG-SPI
designator T?, comment ISP
footprint HDR2X3 (Connector; Header; 3x2 Position)
pins: 1 MISO, 2 VTG, 3 SCK, 4 MOSI, 5 ~{RES}, 6 GND

## JTAG-STM
designator P?
footprint HDR2x10
pins: 1 VAPP, 3 TRST, 4 GND, 5 TDI, 7 TMS_SWDIO, 9 TCK_SWCLK, 13 TDO_SWO, 15 NRST, 17 hidden to 4

## JTAG-STM-SW
designator P?, comment JTAG
footprint HEADER 1x4
pins: 1 VDD, 2 GND, 3 SWDIO, 4 SWCLK

## JUMPER SWITCH
designator J?
footprint JMP3
pins: 1, 2, 3

## KAS03
designator U?
Power Module
footprint KAS0303 (3.3V)
pins: 1 AC IN, 2 AC IN, 3 V+, 4 V-

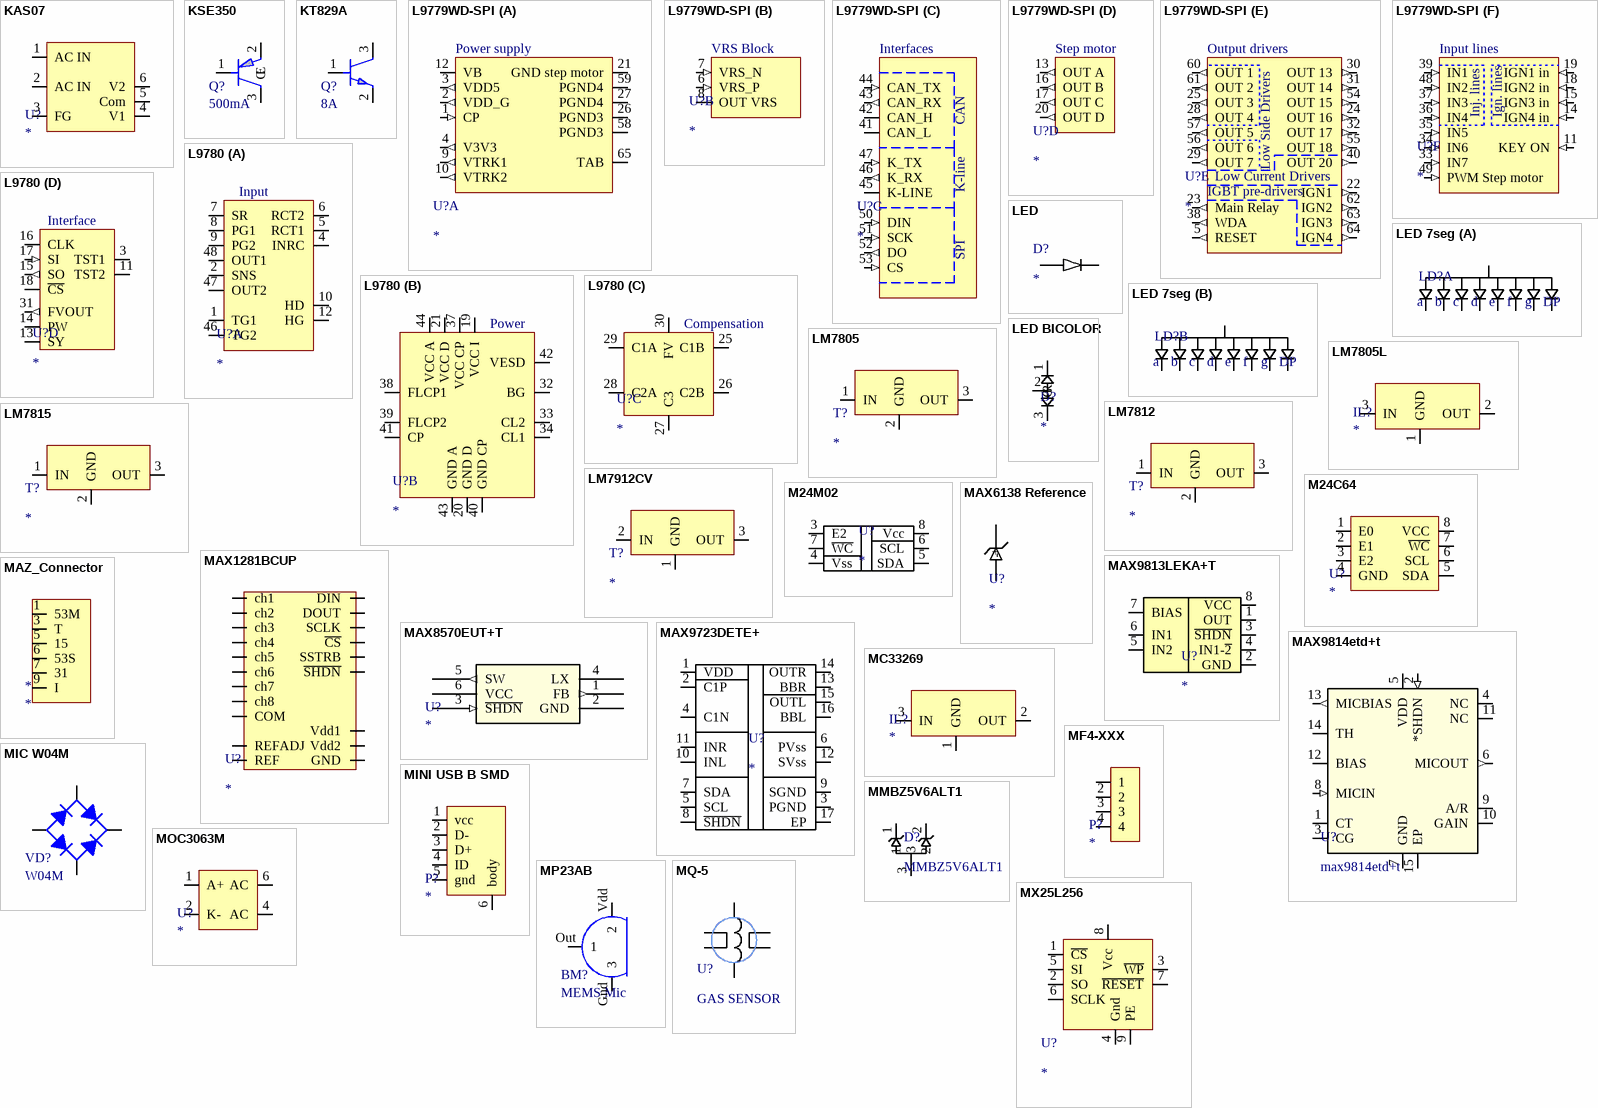
[diagram p3: symbols KAS07 to MX25L256]

## KAS07
designator U?
Power Module
footprint KAM07503D (Dual Band Power Module 5\3.3)
pins: 1 AC IN, 2 AC IN, 3 FG, 4 V1, 5 Com, 6 V2

## KSE350
designator Q?, comment 500mA
PNP
footprint TO-126; pin to pad 1>3 2>1 3>2
pins: 1 B, 2 E, 3 C

## KT829A
designator Q?, comment 8A
NPN
footprint TO-220AB (TO, Thru-Hole, Vertical, Heatsink Mounted; 3 In-Line Leads; Pitch 2.54 mm); pin to pad 2>3 3>2
pins: 1 B, 2 E, 3 C

## L9779WD-SPI
designator U?
Multifunction IC for engine management system
footprint HiQUAD-64
part A pins: 1 CP (in), 2 VDD_G (out), 3 VDD5 (out), 4 V3V3 (out), 9 VTRK1 (out), 10 VTRK2 (out), 12 VB (power), 21 GND step motor, 26 PGND3, 27 PGND4, 58 PGND3, 59 PGND4, 65 TAB
part B pins: 6 VRS_P (in), 7 VRS_N (in), 8 OUT VRS (oc)
part C pins: 41 CAN_L (io), 42 CAN_H (io), 43 CAN_RX (out), 44 CAN_TX (in), 45 K-LINE (io), 46 K_RX (out), 47 K_TX (in), 50 DIN (in), 51 SCK (in), 52 DO (out), 53 CS (in)
part D pins: 13 OUT A (out), 16 OUT B (out), 17 OUT C (out), 20 OUT D (out)
part E pins: 5 RESET (out), 22 IGN1 (out), 23 Main Relay (out), 24 OUT 16 (out), 25 OUT 3 (out), 28 OUT 4 (out), 29 OUT 7 (out), 30 OUT 13 (out), 31 OUT 14 (out), 32 OUT 17 (out), 38 WDA (out), 40 OUT 20 (out), 54 OUT 15 (out), 55 OUT 18 (out), 56 OUT 6 (out), 57 OUT 5 (out), 60 OUT 1 (out), 61 OUT 2 (out), 62 IGN2 (out), 63 IGN3 (out), 64 IGN4 (out)
part F pins: 11 KEY ON (in), 14 IGN4 in (in), 15 IGN3 in (in), 18 IGN2 in (in), 19 IGN1 in (in), 33 IN7 (in), 34 IN6 (in), 35 IN5 (in), 36 IN4 (in), 37 IN3 (in), 39 IN1 (in), 48 IN2 (in), 49 PWM Step motor (in)
part A text: Power supply
part B text: VRS Block
part C text: Interfaces; CAN; K-line; SPI
part D text: Step motor
part E text: Output drivers; Low Side Drivers; Low Current Drivers; IGBT pre-drivers
part F text: Input lines; Inj. lines; Ign. lines

## L9780
designator U?
Wide range air fuel sensor control interface
footprint LQFP-48N (LQFP, 48-Leads, Body 7,00x7,00mm, Pitch 0,50mm, IPC Medium Density)
part A pins: 1 TG1, 2 SNS, 4 INRC, 5 RCT1, 6 RCT2, 7 SR, 8 PG1, 9 PG2, 10 HD, 12 HG, 46 TG2, 47 OUT2, 48 OUT1
part B pins: 19 VCC I, 20 GND D, 21 VCC D, 32 BG, 33 CL2, 34 CL1, 37 VCC CP, 38 FLCP1, 39 FLCP2, 40 GND CP, 41 CP, 42 VESD, 43 GND A, 44 VCC A
part C pins: 25 C1B, 26 C2B, 27 C3, 28 C2A, 29 C1A, 30 FV
part D pins: 3 TST1, 11 TST2, 13 SY, 14 PW, 15 SO (out), 16 CLK, 17 SI (in), 18 ~{CS}, 31 FVOUT (out)
part A text: Input
part B text: Power
part C text: Compensation
part D text: Interface

## LED
designator D?
LED
footprint LED FM-3014
footprint LED 0805; pin to pad +>2 ->1
pins: +, -

## LED 7seg
designator LD?  (value not drawn)
footprint KPDA02-101
part A pins: 1, 2, 4, 5, 16, 17, 19, 20, D1P V
part B pins: 6, 7, 9, 10, 11, 12, 14, 15, D2P V
part A text: a; b; c; d; e; f; g; DP
part B text: a; b; c; d; e; f; g; DP

## LED BICOLOR
designator D?
footprint L-59E (HIGH EFFICIENCY RED / GREEN)
pins: 1 R, 2 A, 3 G

## LM7805
designator T?
5V 1.5A
footprint TO-220AB (TO, Thru-Hole, Vertical, Heatsink Mounted; 3 In-Line Leads; Pitch 2.54 mm)
footprint TO-92
pins: 1 IN, 2 GND, 3 OUT

## LM7805L
designator IL?
Type: LM7805ACD2TG
footprint D2PAK; pin to pad 1>4 2>3 3>1
pins: 1 GND, 2 OUT, 3 IN

## LM7812
designator T?
12V 1.5A
footprint TO-220AB (TO, Thru-Hole, Vertical, Heatsink Mounted; 3 In-Line Leads; Pitch 2.54 mm)
pins: 1 IN, 2 GND, 3 OUT

## LM7815
designator T?
15V 1.5A
footprint TO-220AB (TO, Thru-Hole, Vertical, Heatsink Mounted; 3 In-Line Leads; Pitch 2.54 mm)
pins: 1 IN, 2 GND, 3 OUT

## LM7912CV
designator T?
-12V 1.5A
footprint TO-220AB (TO, Thru-Hole, Vertical, Heatsink Mounted; 3 In-Line Leads; Pitch 2.54 mm)
pins: 1 GND, 2 IN, 3 OUT

## M24C64
designator U?
footprint SO-8
pins: 1 E0, 2 E1, 3 E2, 4 GND, 5 SDA, 6 SCL, 7 ~{WC}, 8 VCC

## M24M02
designator U?
2-Mbit serial I²C bus EEPROM; ComponentLink1Description: Datasheet; ComponentLink1URL: https://www.st.com/resource/en/datasheet/m24m02-dr.pdf
footprint SO-8
pins: 3 E2, 4 Vss, 5 SDA, 6 SCL, 7 ~{WC}, 8 Vcc

## MAX1281BCUP
designator U?
ADC 8ch 2.5V ref
footprint TSOP20 (TSOP, 20-Leads, Body 6,50x4,40mm, Pitch 0,65mm, Thermal Pad 4,34.2x3,15.2mm, IPC Medium Density)
pins: 1 ch1, 2 ch2, 3 ch3, 4 ch4, 5 ch5, 6 ch6, 7 ch7, 8 ch8, 9 COM, 10 ~{SHDN}, 11 REF, 12 REFADJ, 13 GND, 14 DOUT, 15 SSTRB, 16 DIN, 17 ~{CS}, 18 SCLK, 19 Vdd2, 20 Vdd1

## MAX6138 Reference
designator U?
2.5V
footprint SC70 (SC70 3-Leads, Body 2,00x2,10mm, Pitch 0,65mm, IPC Medium Density); pin to pad +>1 ->2
pins: +, -

## MAX8570EUT+T
designator U?
High-Efficiency LCD Boost  with True Shutdown; Manufacturer_Part_Number: max8570eut+t; Vendor: MAXIM; Value: Value; Type: Type; RefDes: RefDes
footprint SOT23-6
pins: 1 FB (out), 2 GND (power), 3 ~{SHDN} (in), 4 LX, 5 SW (out), 6 VCC (power)

## MAX9723DETE+
designator U?
Stereo DirectDrive Headphone Amplifier with BassMax, Volume Control, and I2C
footprint TQFN16 (16-Terminal Ceramic Surface-Mount Case)
pins: 1 VDD, 2 C1P, 3 PGND, 4 C1N, 5 SCL, 6 PVss, 7 SDA, 8 ~{SHDN}, 9 SGND, 10 INL, 11 INR, 12 SVss, 13 BBR, 14 OUTR, 15 OUTL, 16 BBL, 17 EP

## MAX9813LEKA+T
designator U?
Dual-Input, Fixed-Gain / Microphone Amplifiers with Integrated Bias
footprint SOT23-8
pins: 1 OUT, 2 GND, 3 ~{SHDN}, 4 IN1-~{2}, 5 IN2, 6 IN1, 7 BIAS, 8 VCC

## MAX9814etd+t
designator U?, comment max9814etd+t
Microphone Amplifier with AGC and Low-Noise Microphone Bias; SourceLibrary: Maxim_2009-12-17_3b; Built_By: EMA_UL_Team; Vendor: Maxim Integrated Products; Copyright: Copyright (C) 2018 Accelerated Designs. All rights reserved; Manufacturer_Part_Number: max9814etd+t; Revision: 2; RefDes: RefDes; Type: DEV
footprint 14-Pin TDFN (14-Pin TDFN (3mm ? 3mm) Package)
pins: 1 CT, 2 *SHDN (in), 3 CG, 4 NC, 5 VDD (power), 6 MICOUT (out), 7 GND (power), 8 MICIN (in), 9 A/R, 10 GAIN, 11 NC, 12 BIAS, 13 MICBIAS (out), 14 TH, 15 EP

## MAZ_Connector
designator *
footprint MAZ_CON
pins: 1 53M, 3 T, 5 15, 6 53S, 7 31, 9 I

## MC33269
designator IL?
Type: MC33269
footprint DPAK228P991X238-3M (D-PAK, 3-Pads, Body 6,20x6,72mm (max), IPC Low Density); pin to pad 2>4
pins: 1 GND, 2 OUT, 3 IN

## MF4-XXX
designator P?
footprint MF4-MRA
pins: 1, 2, 3, 4

## MIC W04M
designator VD?, comment W04M
400V 1.5A
footprint MIC W04M
pins: 1 K, 2 C, 3 A, 4 C

## MINI USB B SMD
designator P?
footprint MINI USB B SMD
pins: 1 vcc, 2 D-, 3 D+, 4 ID, 5 gnd, 6 body

## MMBZ5V6ALT1
designator D?
24 and 40 Watt Peak Power / Zener Transient Voltage / Suppressors
footprint SOT23 (SOT23, 3-Leads, Body 2,90x2,30mm, Pitch 0,95mm, IPC Medium Density)
pins: 1, 2, 3

## MOC3063M
designator U?
footprint DIP-6
pins: 1 A+, 2 K-, 4 AC, 6 AC

## MP23AB
designator BM?, comment MEMS Mic
MEMS audio sensor   high-performance analog bottom-port microphone
footprint MP23AB02B (high-performance analog bottom-port microphone); pin to pad Gnd>3 Out>1 Vdd>2
pins: Gnd 3, Out 1, Vdd 2

## MQ-5
designator U?, comment GAS SENSOR
footprint MQ-5 (MQ-5 GAS SENSOR)
pins: 1 A, 2 H, 3, 4, 5 H, 6 A

## MX25L256
designator U?
3V 256M-BIT [x 1/x 2/x 4] CMOS MXSMIO® (SERIAL MULTI I/O) FLASH MEMORY
footprint WSON 8L (8x6x0.8mm pitch 1.27mm)
pins: 1 ~{CS}, 2 SO, 3 ~{WP}, 4 Gnd, 5 SI, 6 SCLK, 7 ~{RESET}, 8 Vcc, 9 PE

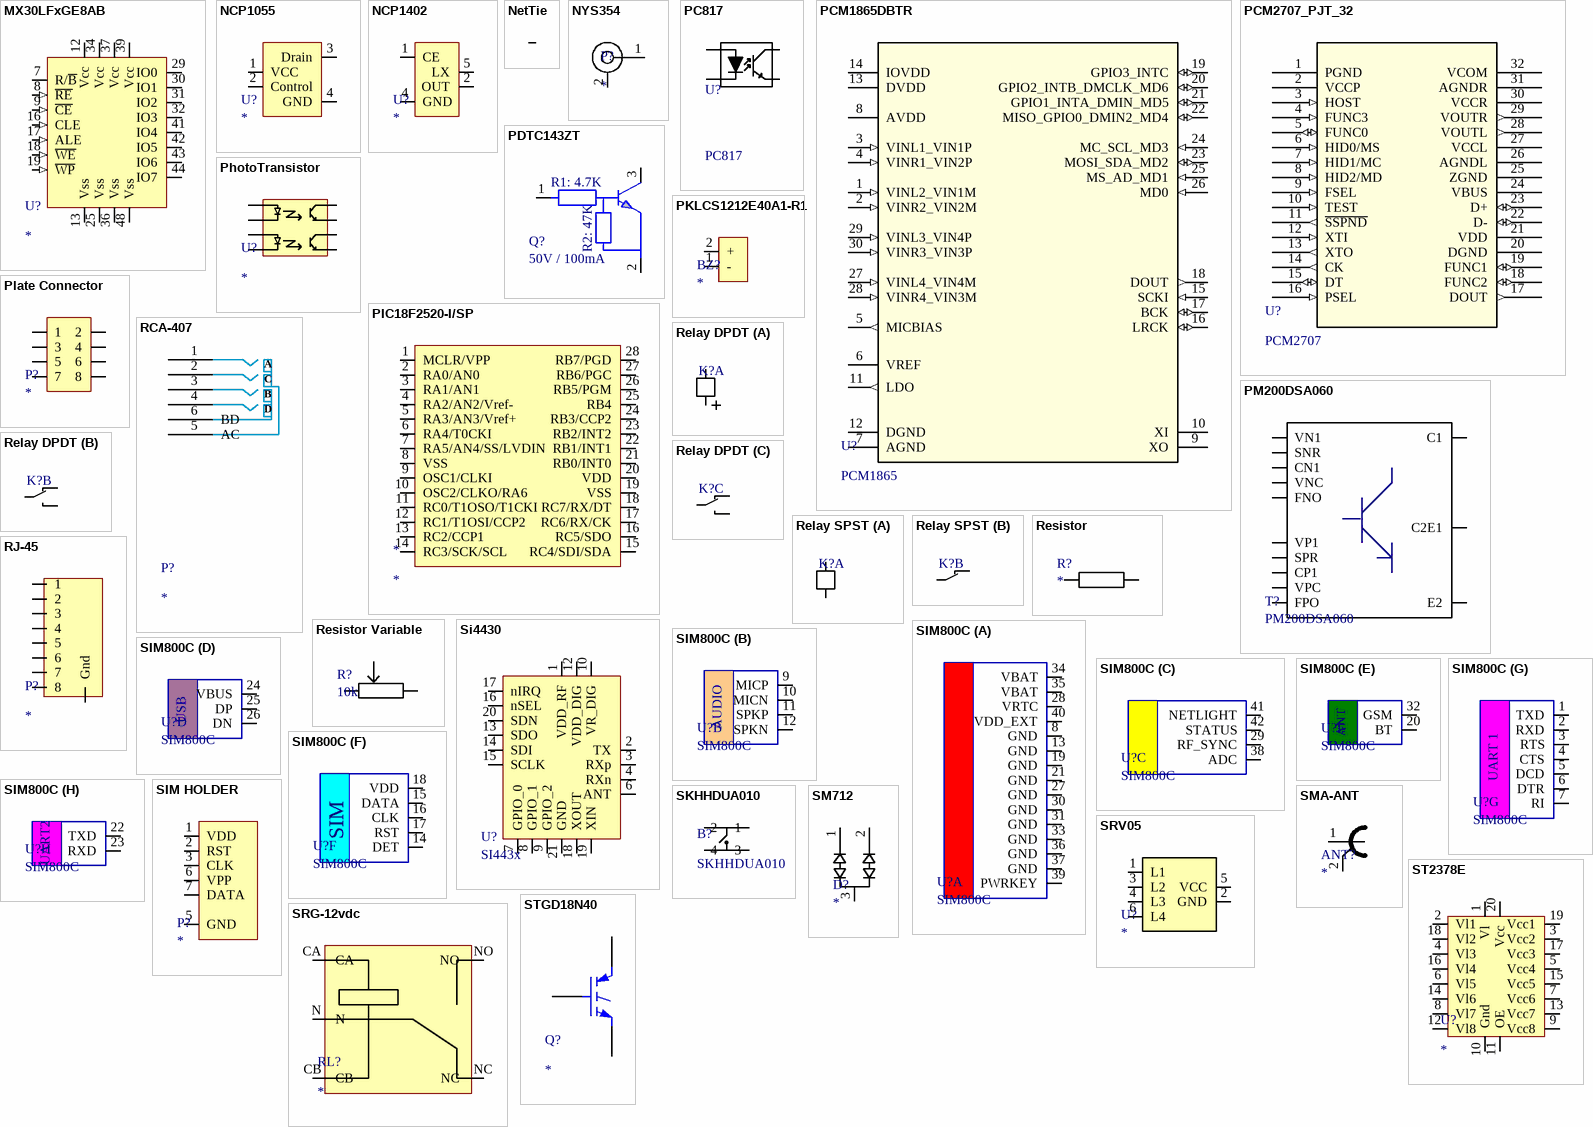
[diagram p4: symbols MX30LFxGE8AB to STGD18N40]

## MX30LFxGE8AB
designator U?
1G/2G/4G-bit NAND Flash Memory  (ECC-Free); ComponentLink1Description: Datasheet; ComponentLink1URL: https://www.mxic.com.tw/Lists/Datasheet/Attachments/6854/MX30LF4GE8AB,%203V,%204Gb,%20v1.3.pdf
footprint TSSOP50P2000X120-48N (TSSOP, 48-Leads, Body 12,00x18,40mm, Pitch 0,50mm, IPC Medium Density)
pins: 7 R/~{B} (oc), 8 ~{RE} (in), 9 ~{CE} (in), 12 Vcc, 13 Vss, 16 CLE (in), 17 ALE (in), 18 ~{WE} (in), 19 ~{WP} (in), 25 Vss, 29 IO0 (io), 30 IO1 (io), 31 IO2 (io), 32 IO3 (io), 34 Vcc, 36 Vss, 37 Vcc, 39 Vcc, 41 IO4 (io), 42 IO5 (io), 43 IO6 (io), 44 IO7 (io), 48 Vss

## NCP1055
designator U?
footprint SOT-223
pins: 1 VCC, 2 Control, 3 Drain, 4 GND

## NCP1402
designator U?
footprint SOT23-5
pins: 1 CE, 2 OUT, 4 GND, 5 LX

## NetTie
designator NT?  (value not drawn)  (net tie, no BOM)
footprint NetTie
pins: 1, 2

## NYS354
designator P?
Phono jack, PCB-mount, max. panel thickness 1.2 mm
footprint NYS354 (Phono ("RCA/Cinch"))
pins: 1 In, 2 Gnd

## PC817
designator U?
4-Pin Phototransistor Optocoupler; Published: 24-Mar-1999; LatestRevisionDate: 04-Mar-2005; LatestRevisionNote: Sch pins 3 & 4 Swapped.; DatasheetVersion: Nov-2003; PackageReference: DIP-4; Publisher: Altium Limited
footprint DIP-4 (DIP; 4 Leads; Row Spacing 7.62 mm; Pitch 2.54 mm)
pins: 1 A "Anode", 2 K "Cathode", 3 E "Emitter", 4 C "Collector"

## PCM1865DBTR
designator U?, comment PCM1865
4-Channel 192-kHz, Audio ADCs; PartNumber: PCM1865DBTR; Alternate_PartNumber: PCM1865DBT; Manufacturer: Texas Instruments; CompType: IC; PIN_COUNT: 30; Application_BuildNumber: *; PackageReference: DBT0030A; MountType: SMT; RoHS: Y; RefDes: RefDes; TYPE: TYPE; Value: Value
footprint DBT0030A_N
footprint DBT0030A_L
footprint DBT0030A_M
pins: 1 VINL2_VIN1M (in), 2 VINR2_VIN2M (in), 3 VINL1_VIN1P (in), 4 VINR1_VIN2P (in), 5 MICBIAS (out), 6 VREF, 7 AGND (power), 8 AVDD (power), 9 XO, 10 XI, 11 LDO (out), 12 DGND (power), 13 DVDD (power), 14 IOVDD (power), 15 SCKI (in), 16 LRCK (io), 17 BCK (io), 18 DOUT (out), 19 GPIO3_INTC (io), 20 GPIO2_INTB_DMCLK_MD6 (io), 21 GPIO1_INTA_DMIN_MD5 (io), 22 MISO_GPIO0_DMIN2_MD4 (io), 23 MOSI_SDA_MD2 (io), 24 MC_SCL_MD3 (in), 25 MS_AD_MD1 (in), 26 MD0 (in), 27 VINL4_VIN4M (in), 28 VINR4_VIN3M (in), 29 VINL3_VIN4P (in), 30 VINR3_VIN3P (in)

## PCM2707_PJT_32
designator U?, comment PCM2707
USB DACS; Manufacturer: Texas Instruments; Manufacturer_Part_Number: pcm2707_pjt_32; INDUSTRY_STD_PKG_TYPE: TQFP; PIN_COUNT: 32; PACKAGE_DESIGNATOR: PJT; Datasheet_URL: http://www.ti.com/lit/gpn/PCM2707; FAMILY_NAME: USB DACS; GENERIC_PART_NUMBER: PCM2707; Vendor: Texas Instruments; Value: Value; Type: Type; RefDes: RefDes
footprint PJT32
pins: 1 PGND (power), 2 VCCP (power), 3 HOST (in), 4 FUNC3 (in), 5 FUNC0 (io), 6 HID0/MS (in), 7 HID1/MC (in), 8 HID2/MD (in), 9 FSEL (in), 10 TEST (in), 11 ~{SSPND} (out), 12 XTI (in), 13 XTO (out), 14 CK (out), 15 DT (io), 16 PSEL (in), 17 DOUT (out), 18 FUNC2 (io), 19 FUNC1 (io), 20 DGND (power), 21 VDD (power), 22 D- (io), 23 D+ (io), 24 VBUS (power), 25 ZGND (power), 26 AGNDL (power), 27 VCCL (power), 28 VOUTL (out), 29 VOUTR (out), 30 VCCR (power), 31 AGNDR (power), 32 VCOM (power)

## PDTC143ZT
designator Q?, comment 50V / 100mA  R1: 4.7K  R2: 47K
NPN
footprint SOT23 (SOT23, 3-Leads, Body 2,90x2,30mm, Pitch 0,95mm, IPC Medium Density)
pins: 1 B, 2 E, 3 C

## PhotoTransistor
designator U?
footprint MOCD207M (SOIC, 8-Leads, Body 4,88x3,91mm, Pitch 1,27mm, IPC Medium Density)
pins: 1 A1, 2 C1, 3 A2, 4 C2, 5 E2, 6 C2, 7 E1, 8 C1

## PIC18F2520-I/SP
designator *
footprint SOIC127P1030X250-28N (SOIC, 28-Leads, Body 17,86x7,46mm, Pitch 1,27mm, IPC Medium Density)
pins: 1 MCLR/VPP, 2 RA0/AN0, 3 RA1/AN1, 4 RA2/AN2/Vref-, 5 RA3/AN3/Vref+, 6 RA4/T0CKI, 7 RA5/AN4/SS/LVDIN, 8 VSS, 9 OSC1/CLKI, 10 OSC2/CLKO/RA6, 11 RC0/T1OSO/T1CKI, 12 RC1/T1OSI/CCP2, 13 RC2/CCP1, 14 RC3/SCK/SCL, 15 RC4/SDI/SDA, 16 RC5/SDO, 17 RC6/RX/CK, 18 RC7/RX/DT, 19 VSS, 20 VDD, 21 RB0/INT0, 22 RB1/INT1, 23 RB2/INT2, 24 RB3/CCP2, 25 RB4, 26 RB5/PGM, 27 RB6/PGC, 28 RB7/PGD

## PKLCS1212E40A1-R1
designator BZ?
footprint PKLCS1212E40A1-R1 (buzzer)
pins: 1 -, 2 +

## Plate Connector
designator P?
footprint Plate Connector
pins: 1, 2, 3, 4, 5, 6, 7, 8

## PM200DSA060
designator T?
footprint PM200DSA060
pins: C1, C2E1, E2, N1 VN1, N2 SNR, N3 CN1, N4 VNC, N5 FNO, P1 VP1, P2 SPR, P3 CP1, P4 VPC, P5 FPO

## RCA-407
designator P?
RCA 2x2
footprint RCA4
pins: 1 A, 2 C, 3 B, 4 D, 5 AC, 6 BD

## Relay DPDT
designator K?  (value not drawn)
footprint IM06TS
footprint IM23
part A pins: 0, 7
part B pins: 1, 2, 3
part C pins: 4, 5, 6

## Relay SPST
designator K?  (value not drawn)
footprint g2rl-1a-e (SPST relay 16A)
part A pins: 0, 1
part B pins: 2, 3

## Resistor
designator R?
Value: *
footprint SMD 1206
footprint SMD 0805
footprint SMD 0603
footprint SMD 0402
footprint SQP 5 (Power Resistor)
footprint RESISTOR KNP-100
footprint RESISTOR KNP-200 (15.5mm x 5mm)
footprint res std
footprint smd2512
pins: 1, 2

## Resistor Variable
designator R?, comment 10k
Value: 10k
footprint res_var_3314-g1
pins: 1, 2, 3

## RJ-45
designator P?
footprint RJ-45
pins: 1, 2, 3, 4, 5, 6, 7, 8, free Gnd

## Si4430
designator U?, comment SI443x
footprint Si4430/31/32
pins: 1 VDD_RF, 2 TX, 3 RXp, 4 RXn, 6 ANT, 7 GPIO_0, 8 GPIO_1, 9 GPIO_2, 10 VR_DIG, 12 VDD_DIG, 13 SDO, 14 SDI, 15 SCLK, 16 nSEL, 17 nIRQ, 18 XOUT, 19 XIN, 20 SDN, 21 GND

## SIM800C
designator U?
GSM Transiver
footprint SIM800C
part A pins: 8 GND, 13 GND, 19 GND, 21 GND, 27 GND, 28 VRTC, 30 GND, 31 GND, 33 GND, 34 VBAT, 35 VBAT, 36 GND, 37 GND, 39 PWRKEY, 40 VDD_EXT
part B pins: 9 MICP, 10 MICN, 11 SPKP, 12 SPKN
part C pins: 29 RF_SYNC, 38 ADC, 41 NETLIGHT, 42 STATUS
part D pins: 24 VBUS, 25 DP, 26 DN
part E pins: 20 BT, 32 GSM
part F pins: 14 DET, 15 DATA, 16 CLK, 17 RST, 18 VDD
part G pins: 1 TXD, 2 RXD, 3 RTS, 4 CTS, 5 DCD, 6 DTR, 7 RI
part H pins: 22 TXD, 23 RXD
part B text: AUDIO
part D text: USB
part E text: ANT
part F text: SIM
part G text: UART 1
part H text: UART2

## SIM HOLDER
designator P?
=value; value: SIM
footprint ICA-501-006-TR
footprint SUMAI001
pins: 1 VDD, 2 RST, 3 CLK, 5 GND, 6 VPP, 7 DATA

## SKHHDUA010
designator B?
SWITCH, TACTILE, 6X6MM, VERT, GREY
footprint SKHHDUA010 (SWITCH, TACTILE, 6X6MM, VERT, GREY)
pins: 1, 2, 3, 4

## SM712
designator D?
footprint SOT23 (SOT23, 3-Leads, Body 2,90x2,30mm, Pitch 0,95mm, IPC Medium Density)
pins: 1, 2, 3

## SMA-ANT
designator ANT?
footprint HYR-1405
footprint 3-1478978-1 (SMA Connector)
pins: 1, 2

## SRG-12vdc
designator RL?
Relay
footprint SRG-12VDC
pins: CA, CB, N, NC, NO

## SRV05
designator U?
TVS Diode Array
footprint SOT23-6
pins: 1 L1, 2 GND, 3 L2, 4 L3, 5 VCC, 6 L4

## ST2378E
designator U?
8-bit dual supply 1.71 to 5.5 V level translator with I/O VCC ± 15 KV / ESD protection
footprint TSSOP20 (TSsOP, 20-Leads, Body 6,50x4,40mm, Pitch 0,65mm,  IPC Medium Density)
pins: 1 Vl, 2 Vl1, 3 Vcc2, 4 Vl3, 5 Vcc4, 6 Vl5, 7 Vcc6, 8 Vl7, 9 Vcc8, 10 Gnd, 11 OE, 12 Vl8, 13 Vcc7, 14 Vl6, 15 Vcc5, 16 Vl4, 17 Vcc3, 18 Vl2, 19 Vcc1, 20 Vcc

## STGD18N40
designator Q?
IGBT Automotive-grade 390 V internally clamped  ESCIS 180 mJ; ComponentLink1Description: Datasheet; ComponentLink1URL: https://my.st.com/resource/en/datasheet/stgd18n40lz.pdf
footprint DPAK228P991X238-3M (D-PAK, 3-Pads, Body 6,20x6,72mm (max), IPC Low Density)
pins: 1 G, 3 E, 4 C

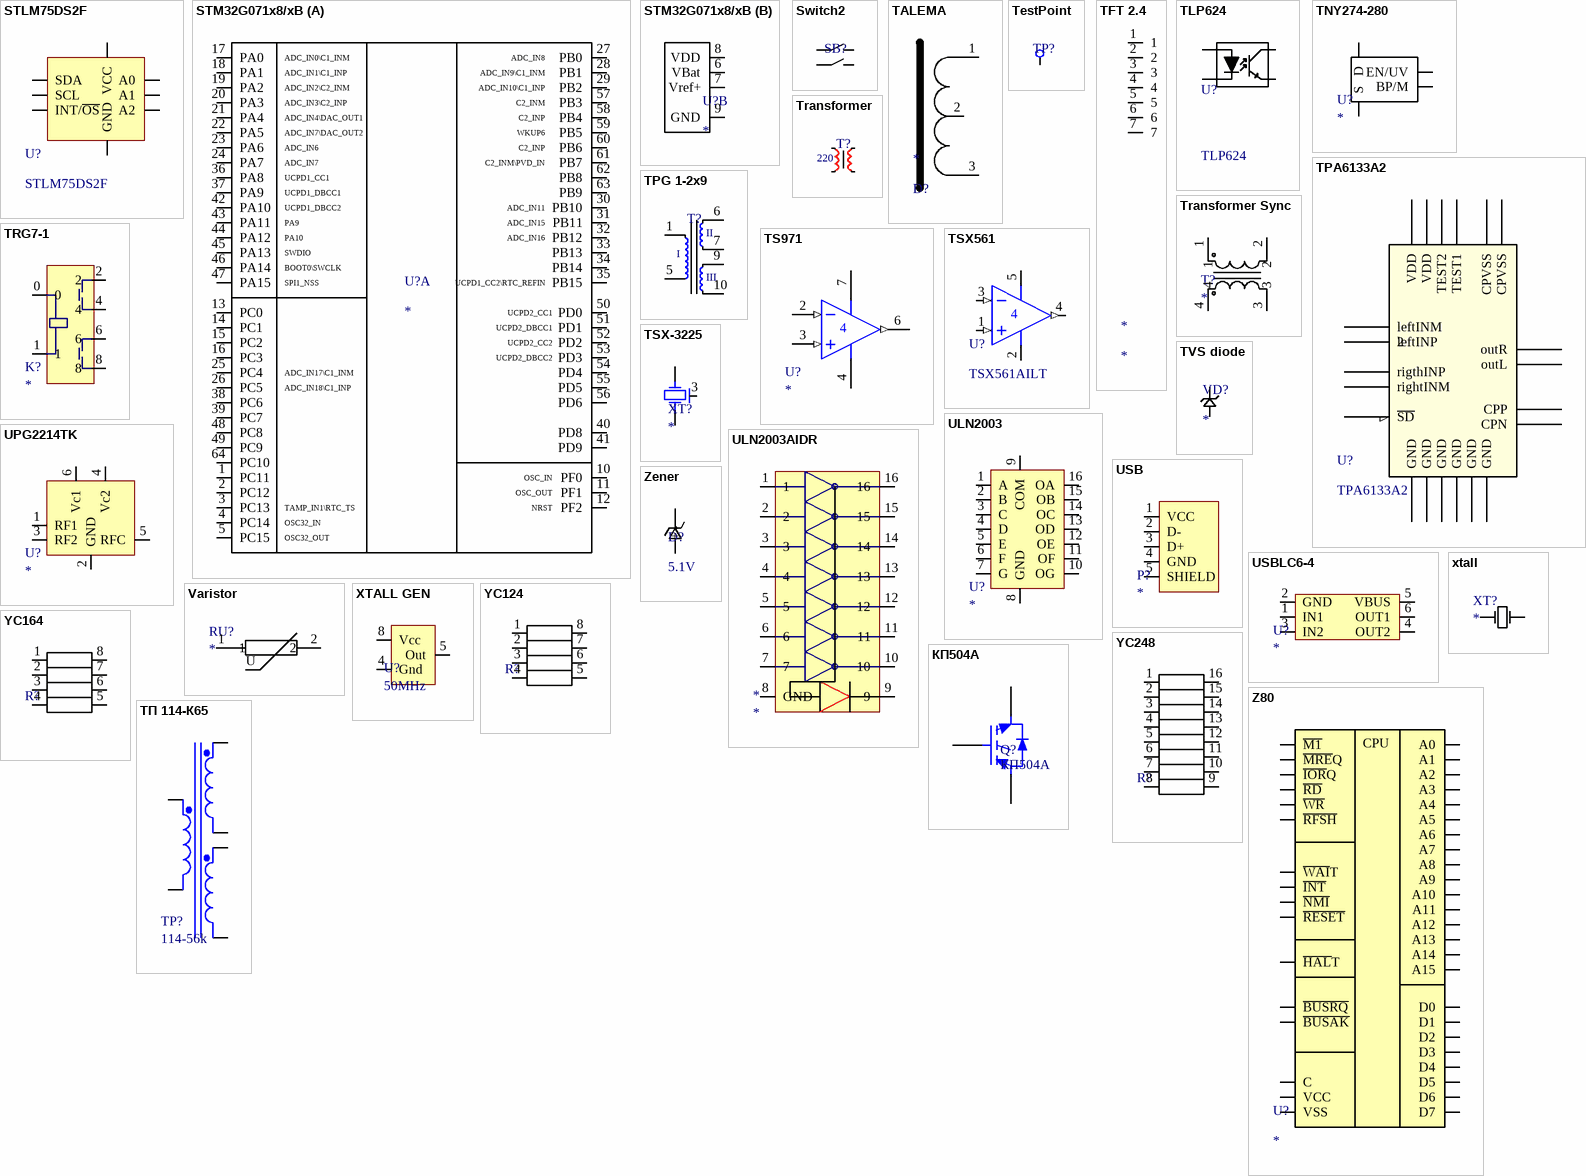
[diagram p5: symbols STLM75DS2F to ТП 114-К65]

## STLM75DS2F
designator U?
Digital temperature sensor and thermal watchdog
footprint TSOP65P490X110-8N (TSOP, 8-Leads, Body 3,00x2,95mm, Pitch 0,65mm, IPC Medium Density)
pins: 1 SDA, 2 SCL, 3 INT/~{OS} (oc), 4 GND, 5 A2, 6 A1, 7 A0, 8 VCC

## STM32G071x8/xB
designator U?
Arm® Cortex®-M0+ 32-bit MCU, up to 128 KB Flash, 36 KB RAM, / 4x USART, timers, ADC, DAC, comm. I/Fs, 1.7-3.6V
footprint LQFP-64 (LQFP64 is a 64-pin, 10 x 10 mm low-profile quad flat package.)
part A pins: 1 PC11, 2 PC12, 3 PC13, 4 PC14, 5 PC15, 10 PF0, 11 PF1, 12 PF2, 13 PC0, 14 PC1, 15 PC2, 16 PC3, 17 PA0, 18 PA1, 19 PA2, 20 PA3, 21 PA4, 22 PA5, 23 PA6, 24 PA7, 25 PC4, 26 PC5, 27 PB0, 28 PB1, 29 PB2, 30 PB10, 31 PB11, 32 PB12, 33 PB13, 34 PB14, 35 PB15, 36 PA8, 37 PA9, 38 PC6, 39 PC7, 40 PD8, 41 PD9, 42 PA10, 43 PA11, 44 PA12, 45 PA13, 46 PA14, 47 PA15, 48 PC8, 49 PC9, 50 PD0, 51 PD1, 52 PD2, 53 PD3, 54 PD4, 55 PD5, 56 PD6, 57 PB3, 58 PB4, 59 PB5, 60 PB6, 61 PB7, 62 PB8, 63 PB9, 64 PC10
part B pins: 6 VBat, 7 Vref+, 8 VDD, 9 GND
1 alternate drawing of the same symbol
part A text: ADC_IN0\C1_INM; ADC_IN8; ADC_IN1\C1_INP; ADC_IN9\C1_INM; ADC_IN2\C2_INM; ADC_IN10\C1_INP; ADC_IN3\C2_INP; C2_INM; ADC_IN4\DAC_OUT1; C2_INP; ADC_IN7\DAC_OUT2; WKUP6; ADC_IN6; ADC_IN7; C2_INM\PVD_IN; UCPD1_CC1; UCPD1_DBCC1; UCPD1_DBCC2; ADC_IN11; ADC_IN15; ADC_IN16; SWDIO; BOOT0\SWCLK; SPI1_NSS; UCPD1_CC2\RTC_REFIN; UCPD2_CC1; UCPD2_DBCC1; UCPD2_CC2; UCPD2_DBCC2; ADC_IN17\C1_INM; ADC_IN18\C1_INP; OSC_IN; OSC_OUT; TAMP_IN1\RTC_TS; NRST; OSC32_IN; OSC32_OUT

## Switch2
designator SB?, comment Switch DIP OFF ON SPST 2 Recessed Rocker 0.025A 24VDC Gull Wing 1.27mm SMD T/R  (value not drawn)
1571983-1
footprint 1571983-1 (Switch DIP OFF ON SPST 2 Recessed Rocker 0.025A 24VDC Gull Wing 1.27mm SMD T/R)
pins: 1, 2, 3, 4

## TALEMA
designator *, comment D?
current sensor
footprint AC1200
pins: 1, 2, 3

## TestPoint
designator TP?, comment testPoint  (value not drawn)
footprint TESTPOINT (testpoint)
pins: 0

## TFT 2.4
designator *
TFT 2.4 Screen
pins: 1, 2, 3, 4, 5, 6, 7

## TLP624
designator U?
4-Pin Phototransistor Optocoupler; Published: 24-Mar-1999; LatestRevisionDate: 04-Mar-2005; LatestRevisionNote: Sch pins 3 & 4 Swapped.; DatasheetVersion: Nov-2003; PackageReference: DIP-4; Publisher: Altium Limited
footprint DIP-4 (DIP; 4 Leads; Row Spacing 7.62 mm; Pitch 2.54 mm)
pins: 1 A "Anode", 2 K "Cathode", 3 E "Emitter", 4 C "Collector"

## TNY274-280
designator U?
AC-DC PWM Converter; Value: *
footprint TNY274-280 (AC-DC PWM Converter)
pins: 1 EN/UV, 2 BP/M, 4 D, 5 S

## TPA6133A2
designator U?
Headphone amp; Manufacturer: Texas Instruments; INDUSTRY_STD_PKG_TYPE: PWQFN20; PIN_COUNT: 20; Datasheet_URL: http://www.ti.com/lit/ds/symlink/tpa6133a2.pdf; FAMILY_NAME: Headphone amp; PACKAGE_DESIGNATOR: PWQFN20; GENERIC_PART_NUMBER: TPA6133A2; Vendor: Texas Instruments; Manufacturer_Part_Number: TPA6133A2; Value: Value; Type: Type; RefDes: RefDes
footprint QFN20
pins: 1 leftINM, 2, 2 leftINP, 3 GND, 4 rigthINP, 5 rightINM, 6 ~{SD}, 7 TEST2, 8 TEST1, 9 GND, 10 GND, 11 outR, 12 VDD, 13 GND, 14 outL, 15 CPVSS, 16 CPVSS, 17 CPN, 18 CPP, 19 GND, 20 VDD, 21 GND

## TPG 1-2x9
designator T?  (value not drawn)
footprint TPG1-2
pins: 1 P1, 5 P5, 6 P6, 7 P7, 9 P9, 10 P10
text: II; I; III

## Transformer
designator T?  (value not drawn)
footprint TPG1 (Transformer)
pins: 0, 1, 2, 3
text: 220

## Transformer Sync
designator T?
Value: *
footprint PLA10AN
pins: 1, 2, 3, 4

## TRG7-1
designator K?
footprint TRG7-1-PType (Relay)
pins: 0, 1, 2, 4, 6, 8

## TS971
designator U?
Output rail-to-rail very low noise operational amplifier
footprint SO-8
pins: 2 IN- (in), 3 IN+ (in), 4 V- (power), 6 OUT (out), 7 V+ (power)

## TSX561
designator U?, comment TSX561AILT
Micropower, wide bandwidth (900 kHz), 16 V CMOS operational amplifiers
footprint SOT23-5
pins: 1 IN (in), 2 V- (power), 3 ~{IN} (in), 4 OUT (out), 5 V+ (power)

## TSX-3225
designator XT?
LOW PROFILE CRYSTAL
footprint TSX-3225 (LOW SIZE CRYSTAL); pin to pad 2>3 3>2
pins: 1, 2, 3

## TVS diode
designator VD?
TVS Diode
footprint SOD323 (JEDEC SOD-323)
pins: 1, 2

## ULN2003
designator U?
footprint SOIC127P600X175_HS-17M (SOIC, 16-Leads, Body 9,90x3,90mm, Pitch 1,27mm, Thermal Pad 9,00.2x1,80.2mm, IPC Low Density)
pins: 1 A, 2 B, 3 C, 4 D, 5 E, 6 F, 7 G, 8 GND, 9 COM, 10 OG, 11 OF, 12 OE, 13 OD, 14 OC, 15 OB, 16 OA

## ULN2003AIDR
designator *
footprint SOIC127P600X175_HS-17M (SOIC, 16-Leads, Body 9,90x3,90mm, Pitch 1,27mm, Thermal Pad 9,00.2x1,80.2mm, IPC Low Density)
pins: 1, 2, 3, 4, 5, 6, 7, 8 GND, 9, 10, 11, 12, 13, 14, 15, 16

## UPG2214TK
designator U?
UPG2214TK-E2-A
footprint MINIMOLD
pins: 1 RF1, 2 GND, 3 RF2, 4 Vc2, 5 RFC, 6 Vc1

## USB
designator P?
smd articul: 1734028-1
footprint USB Type A
pins: 1 VCC, 2 D-, 3 D+, 4 GND, 5 SHIELD

## USBLC6-4
designator U?
footprint SOT23-6
pins: 1 IN1, 2 GND, 3 IN2, 4 OUT2, 5 VBUS, 6 OUT1

## Varistor
designator RU?
footprint JVR-10N391K
footprint SMD 1206
footprint SMD 0805
pins: 1, 2
text: U

## xtall
designator XT?
footprint HC-49U
footprint DT-38T
footprint HC49SMD (hc49 smd xtal)
footprint KX–327NHT (smd xtal)
footprint KX-13 (QUARTZ CRYSTAL)
footprint KX-7 (Quartz Crystal)
pins: 1, 2, 3 hidden to GND

## XTALL GEN
designator U?, comment 50MHz
value: 50MHz
footprint XTALL GEN
footprint KXO-V97; pin to pad 4>2 5>3 8>4
pins: 4 Gnd, 5 Out, 8 Vcc

## YC124
designator R?
ARRAY CHIP RESISTORS; ComponentLink1Description: Datasheet; ComponentLink1URL: https://ru.mouser.com/datasheet/2/447/PYu_YC_TC_group_51_RoHS_L_9-1730536.pdf
pins: 1, 2, 3, 4, 5, 6, 7, 8

## YC164
designator R?
ARRAY CHIP RESISTORS
footprint YC164
pins: 1, 2, 3, 4, 5, 6, 7, 8

## YC248
designator R?
ARRAY CHIP RESISTORS
footprint YC248 (ARRAY CHIP RESISTORS)
pins: 1, 2, 3, 4, 5, 6, 7, 8, 9, 10, 11, 12, 13, 14, 15, 16

## Z80
designator U?
Zilog CPU
footprint Z80 (Dip40)
pins: 1 A11, 2 A12, 3 A13, 4 A14, 5 A15, 6 C, 7 D4, 8 D3, 9 D5, 10 D6, 11 VCC, 12 D2, 13 D7, 14 D0, 15 D1, 16 ~{INT}, 17 ~{NMI}, 18 ~{HAL}T, 19 ~{MRE}Q, 20 ~{IOR}Q, 21 ~{RD}, 22 ~{WR}, 23 ~{BUSAK}, 24 ~{WAI}T, 25 ~{BUSRQ}, 26 ~{RESET}, 27 ~{M1}, 28 ~{RFSH}, 29 VSS, 30 A0, 31 A1, 32 A2, 33 A3, 34 A4, 35 A5, 36 A6, 37 A7, 38 A8, 39 A9, 40 A10
text: CPU

## Zener
designator D?, comment 5.1V
Zener; value: 5.1V
footprint SOT23 (SOT23, 3-Leads, Body 2,90x2,30mm, Pitch 0,95mm, IPC Medium Density); pin to pad +>3 ->1
footprint SOD123; pin to pad +>1 ->0
footprint DO-15 (Diode); pin to pad +>1 ->0
footprint SOD-80 (MINIMELF DO-213AA LL-34); pin to pad +>1 ->2
footprint SOD323 (JEDEC SOD-323); pin to pad +>1 ->2
pins: +, -

## КП504А
designator Q?
Insulated Gate Bipolar Transistor with Ultrafast Soft Recovery Diode; Note: Pin 2 (collector) is electrically connected to the BASE; Published: 8-Jun-2000; LatestRevisionDate: 17-Jul-2002; LatestRevisionNote: Re-released for DXP Platform.; DatasheetVersion: Apr-1997; PackageVersion: Aug-1997; PackageReference: TO-247AC; Publisher: Altium Limited; PackageDescription: SIP with Mounting Hole; 3 Leads; Body 20 x 15.6 x 5 mm (typ); Pitch 5.45 mm; Code_JEDEC: TO-247-AC; ComponentLink1Description: Manufacturer Link; ComponentLink1URL: http://www.irf.com/; ComponentLink2Description: Datasheet; ComponentLink2URL: http://www.irf.com/product-info/datasheets/data/irg4pc50ud.pdf
simulation model IRG4PC50UD (SUBCKT)
footprint TO-92
pins: 1 G, 2 C, 3 E

## ТП 114-К65
designator TP?, comment 114-56k
~220V 2x11.8V
footprint ТП 114
pins: 1 Pri-, 4 Pri+, 7 Sec1+, 8 Sec1-, 10 Sec2+, 11 Sec2-